# Altium footprint library lib_driver.pcblib: 30 footprints (part 2 of 5)
Each footprint in its own frame and in the unit in brackets; x right, y up, seen from the top. Pads: shape width x height; smd on the part's side, far side on the other; paste and mask are expansions set on the pad; w line width, h text height; cw(c..) or ccw(c..) is an arc to the next point about the centre after c.
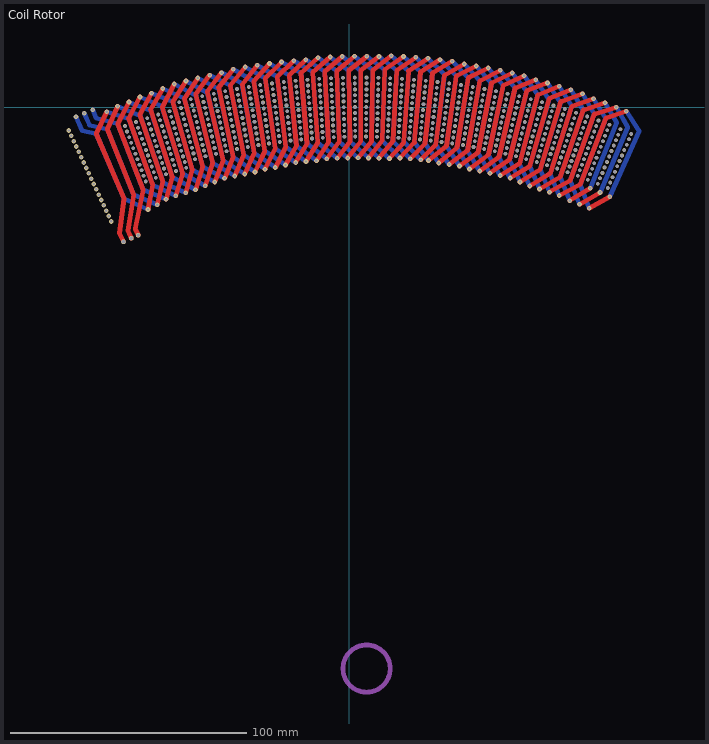
[diagram p1: the footprint, top view; thin cyan lines are the x and y axes]

## Coil Rotor [mm] "Planar Coil"
pads (3):
  round 2 hole 1.6: 1(-95.679,-57.004) 2(-92.339,-55.495) 3(-89.458,-54.242)
via 109.471,-34.23 diameter 1.6 hole 1.5
via 110.468,-31.937 diameter 1.6 hole 1.5
via 111.465,-29.645 diameter 1.6 hole 1.5
via 112.462,-27.352 diameter 1.6 hole 1.5
via 113.459,-25.059 diameter 1.6 hole 1.5
via 114.455,-22.767 diameter 1.6 hole 1.5
via 115.452,-20.474 diameter 1.6 hole 1.5
via 116.449,-18.181 diameter 1.6 hole 1.5
via 117.446,-15.889 diameter 1.6 hole 1.5
via 118.443,-13.596 diameter 1.6 hole 1.5
via 119.44,-11.303 diameter 1.6 hole 1.5
via 114.821,-9.343 diameter 1.6 hole 1.5
via 113.864,-11.652 diameter 1.6 hole 1.5
via 112.907,-13.962 diameter 1.6 hole 1.5
via 111.951,-16.272 diameter 1.6 hole 1.5
via 110.994,-18.582 diameter 1.6 hole 1.5
via 110.037,-20.891 diameter 1.6 hole 1.5
via 109.081,-23.201 diameter 1.6 hole 1.5
via 108.124,-25.511 diameter 1.6 hole 1.5
via 107.167,-27.82 diameter 1.6 hole 1.5
via 106.211,-30.13 diameter 1.6 hole 1.5
via 105.254,-32.44 diameter 1.6 hole 1.5
via 101.006,-30.724 diameter 1.6 hole 1.5
via 101.922,-28.397 diameter 1.6 hole 1.5
via 102.838,-26.071 diameter 1.6 hole 1.5
via 103.755,-23.745 diameter 1.6 hole 1.5
via 104.671,-21.419 diameter 1.6 hole 1.5
via 105.587,-19.093 diameter 1.6 hole 1.5
via 106.504,-16.767 diameter 1.6 hole 1.5
via 107.42,-14.441 diameter 1.6 hole 1.5
via 108.336,-12.115 diameter 1.6 hole 1.5
via 109.252,-9.789 diameter 1.6 hole 1.5
via 110.169,-7.463 diameter 1.6 hole 1.5
via 105.484,-5.665 diameter 1.6 hole 1.5
via 104.609,-8.007 diameter 1.6 hole 1.5
via 103.733,-10.348 diameter 1.6 hole 1.5
via 102.857,-12.69 diameter 1.6 hole 1.5
via 101.982,-15.032 diameter 1.6 hole 1.5
via 101.106,-17.373 diameter 1.6 hole 1.5
via 100.231,-19.715 diameter 1.6 hole 1.5
via 99.355,-22.057 diameter 1.6 hole 1.5
via 98.48,-24.398 diameter 1.6 hole 1.5
via 97.604,-26.74 diameter 1.6 hole 1.5
via 96.729,-29.082 diameter 1.6 hole 1.5
via 92.424,-27.515 diameter 1.6 hole 1.5
via 93.258,-25.158 diameter 1.6 hole 1.5
via 94.093,-22.802 diameter 1.6 hole 1.5
via 94.927,-20.445 diameter 1.6 hole 1.5
via 95.762,-18.088 diameter 1.6 hole 1.5
via 96.596,-15.732 diameter 1.6 hole 1.5
via 97.431,-13.375 diameter 1.6 hole 1.5
via 98.265,-11.018 diameter 1.6 hole 1.5
via 99.1,-8.662 diameter 1.6 hole 1.5
via 99.934,-6.305 diameter 1.6 hole 1.5
via 100.769,-3.949 diameter 1.6 hole 1.5
via 96.024,-2.315 diameter 1.6 hole 1.5
via 95.231,-4.686 diameter 1.6 hole 1.5
via 94.438,-7.057 diameter 1.6 hole 1.5
via 93.645,-9.427 diameter 1.6 hole 1.5
via 92.851,-11.798 diameter 1.6 hole 1.5
via 92.058,-14.169 diameter 1.6 hole 1.5
via 91.265,-16.54 diameter 1.6 hole 1.5
via 88.885,-23.652 diameter 1.6 hole 1.5
via 88.092,-26.023 diameter 1.6 hole 1.5
via 83.735,-24.607 diameter 1.6 hole 1.5
via 84.486,-22.223 diameter 1.6 hole 1.5
via 91.252,-0.764 diameter 1.6 hole 1.5
via 117.286,-1.706 diameter 2 hole 1
via 113.1,-0.02 diameter 2 hole 1
via 108.286,1.828 diameter 2 hole 1
via 97.485,-41.16 diameter 2 hole 1
via 101.551,-42.813 diameter 2 hole 1
via 102.01,-34.354 diameter 2 hole 1
via 106.194,-36.087 diameter 2 hole 1
via 110.348,-37.893 diameter 2 hole 1
via 93.39,-39.578 diameter 2 hole 1
via 88.919,-37.413 diameter 2 hole 1
via 84.76,-35.981 diameter 2 hole 1
via -71.364,-0.323 diameter 1.6 hole 1.5
via -63.429,-11.138 diameter 1.6 hole 1.5
via -60.925,-20.819 diameter 1.6 hole 1.5
via -61.551,-18.399 diameter 1.6 hole 1.5
via -62.177,-15.979 diameter 1.6 hole 1.5
via -62.803,-13.558 diameter 1.6 hole 1.5
via -64.055,-8.718 diameter 1.6 hole 1.5
via -64.681,-6.297 diameter 1.6 hole 1.5
via -65.307,-3.877 diameter 1.6 hole 1.5
via -65.933,-1.456 diameter 1.6 hole 1.5
via -66.559,0.964 diameter 1.6 hole 1.5
via -70.695,-2.733 diameter 1.6 hole 1.5
via -70.027,-5.142 diameter 1.6 hole 1.5
via -69.359,-7.551 diameter 1.6 hole 1.5
via -68.691,-9.96 diameter 1.6 hole 1.5
via -68.023,-12.369 diameter 1.6 hole 1.5
via -67.355,-14.778 diameter 1.6 hole 1.5
via -66.687,-17.187 diameter 1.6 hole 1.5
via -66.019,-19.596 diameter 1.6 hole 1.5
via -65.351,-22.005 diameter 1.6 hole 1.5
via -69.755,-23.268 diameter 1.6 hole 1.5
via -70.465,-20.871 diameter 1.6 hole 1.5
via -71.175,-18.474 diameter 1.6 hole 1.5
via -71.885,-16.077 diameter 1.6 hole 1.5
via -72.595,-13.68 diameter 1.6 hole 1.5
via -73.305,-11.283 diameter 1.6 hole 1.5
via -74.015,-8.886 diameter 1.6 hole 1.5
via -74.725,-6.489 diameter 1.6 hole 1.5
via -75.435,-4.092 diameter 1.6 hole 1.5
via -76.145,-1.694 diameter 1.6 hole 1.5
via -80.15,-5.533 diameter 1.6 hole 1.5
via -79.398,-7.917 diameter 1.6 hole 1.5
via -78.646,-10.302 diameter 1.6 hole 1.5
via -77.895,-12.686 diameter 1.6 hole 1.5
via -77.143,-15.07 diameter 1.6 hole 1.5
via -76.391,-17.455 diameter 1.6 hole 1.5
via -75.639,-19.839 diameter 1.6 hole 1.5
via -74.888,-22.223 diameter 1.6 hole 1.5
via -74.136,-24.607 diameter 1.6 hole 1.5
via -73.384,-26.992 diameter 1.6 hole 1.5
via -77.7,-28.394 diameter 1.6 hole 1.5
via -79.286,-23.652 diameter 1.6 hole 1.5
via -78.493,-26.023 diameter 1.6 hole 1.5
via -80.08,-21.282 diameter 1.6 hole 1.5
via -80.08,-21.282 diameter 1.6 hole 1.5
via -81.666,-16.54 diameter 1.6 hole 1.5
via -80.873,-18.911 diameter 1.6 hole 1.5
via -82.459,-14.169 diameter 1.6 hole 1.5
via -83.253,-11.798 diameter 1.6 hole 1.5
via -84.046,-9.427 diameter 1.6 hole 1.5
via -84.839,-7.057 diameter 1.6 hole 1.5
via -81.99,-29.871 diameter 1.6 hole 1.5
via -82.825,-27.515 diameter 1.6 hole 1.5
via -83.659,-25.158 diameter 1.6 hole 1.5
via -84.494,-22.802 diameter 1.6 hole 1.5
via -85.328,-20.445 diameter 1.6 hole 1.5
via -86.163,-18.088 diameter 1.6 hole 1.5
via -86.997,-15.732 diameter 1.6 hole 1.5
via -87.832,-13.375 diameter 1.6 hole 1.5
via -88.667,-11.018 diameter 1.6 hole 1.5
via -89.501,-8.662 diameter 1.6 hole 1.5
via -86.255,-31.423 diameter 1.6 hole 1.5
via -87.13,-29.082 diameter 1.6 hole 1.5
via -88.006,-26.74 diameter 1.6 hole 1.5
via -88.881,-24.398 diameter 1.6 hole 1.5
via -89.757,-22.057 diameter 1.6 hole 1.5
via -90.632,-19.715 diameter 1.6 hole 1.5
via -91.508,-17.373 diameter 1.6 hole 1.5
via -92.383,-15.032 diameter 1.6 hole 1.5
via -93.259,-12.69 diameter 1.6 hole 1.5
via -94.134,-10.348 diameter 1.6 hole 1.5
via -102.769,-1.881 diameter 2 hole 1
via -98.161,0.423 diameter 2 hole 1
via -93.34,2.178 diameter 2 hole 1
via -88.647,4.323 diameter 2 hole 1
via -83.758,5.911 diameter 2 hole 1
via -78.985,7.894 diameter 2 hole 1
via -74.169,9.794 diameter 2 hole 1
via -69.188,11.129 diameter 2 hole 1
via -64.184,12.377 diameter 2 hole 1
via -59.158,13.537 diameter 2 hole 1
via -54.114,14.609 diameter 2 hole 1
via -49.142,16.085 diameter 2 hole 1
via -44.055,16.982 diameter 2 hole 1
via -38.952,17.79 diameter 2 hole 1
via -33.836,18.509 diameter 2 hole 1
via -28.709,19.139 diameter 2 hole 1
via -23.571,19.679 diameter 2 hole 1
via -18.424,20.129 diameter 2 hole 1
via -13.301,20.989 diameter 2 hole 1
via -8.134,21.259 diameter 2 hole 1
via -2.962,21.44 diameter 2 hole 1
via 2.212,21.53 diameter 2 hole 1
via 7.387,21.53 diameter 2 hole 1
via 12.561,21.44 diameter 2 hole 1
via 17.754,21.759 diameter 2 hole 1
via 22.931,21.488 diameter 2 hole 1
via 28.102,21.126 diameter 2 hole 1
via 33.266,20.674 diameter 2 hole 1
via 38.421,20.133 diameter 2 hole 1
via 43.566,19.501 diameter 2 hole 1
via 48.625,18.285 diameter 2 hole 1
via 53.736,17.475 diameter 2 hole 1
via 58.832,16.577 diameter 2 hole 1
via 63.912,15.589 diameter 2 hole 1
via 68.974,14.513 diameter 2 hole 1
via 74.016,13.349 diameter 2 hole 1
via 78.912,11.613 diameter 2 hole 1
via 83.902,10.276 diameter 2 hole 1
via 88.868,8.852 diameter 2 hole 1
via 93.808,7.342 diameter 2 hole 1
via 76.371,-33.336 diameter 2 hole 1
via 68.146,-30.017 diameter 2 hole 1
via 72.277,-31.642 diameter 2 hole 1
via 63.861,-28.949 diameter 2 hole 1
via 59.559,-27.955 diameter 2 hole 1
via 55.239,-27.037 diameter 2 hole 1
via 50.905,-26.195 diameter 2 hole 1
via 46.639,-24.935 diameter 2 hole 1
via 42.269,-24.243 diameter 2 hole 1
via 37.888,-23.627 diameter 2 hole 1
via 33.553,-22.591 diameter 2 hole 1
via 30.247,-22.236 diameter 2 hole 1
via 25.833,-21.831 diameter 2 hole 1
via 21.412,-21.502 diameter 2 hole 1
via 16.962,-21.75 diameter 2 hole 1
via 12.541,-21.576 diameter 2 hole 1
via 8.118,-21.48 diameter 2 hole 1
via 3.693,-21.461 diameter 2 hole 1
via -0.731,-21.519 diameter 2 hole 1
via -5.153,-21.654 diameter 2 hole 1
via -9.572,-21.866 diameter 2 hole 1
via -13.95,-22.654 diameter 2 hole 1
via -18.35,-23.02 diameter 2 hole 1
via -22.744,-23.462 diameter 2 hole 1
via -31.361,-25.566 diameter 2 hole 1
via -27.066,-24.477 diameter 2 hole 1
via -35.708,-26.235 diameter 2 hole 1
via -39.953,-27.472 diameter 2 hole 1
via -44.266,-28.291 diameter 2 hole 1
via -48.563,-29.185 diameter 2 hole 1
via -52.844,-30.153 diameter 2 hole 1
via -56.985,-31.681 diameter 2 hole 1
via -61.09,-33.279 diameter 2 hole 1
via -69.336,-36.203 diameter 2 hole 1
via -73.492,-37.533 diameter 2 hole 1
via -77.623,-38.936 diameter 2 hole 1
via -81.384,-41.349 diameter 2 hole 1
via -85.266,-43.354 diameter 2 hole 1
via -65.158,-34.946 diameter 2 hole 1
via -61.733,2.167 diameter 1.6 hole 1.5
via -61.149,-0.264 diameter 1.6 hole 1.5
via -60.565,-2.695 diameter 1.6 hole 1.5
via -59.982,-5.125 diameter 1.6 hole 1.5
via -59.398,-7.556 diameter 1.6 hole 1.5
via -58.814,-9.987 diameter 1.6 hole 1.5
via -58.231,-12.418 diameter 1.6 hole 1.5
via -57.647,-14.849 diameter 1.6 hole 1.5
via -57.064,-17.28 diameter 1.6 hole 1.5
via -56.48,-19.711 diameter 1.6 hole 1.5
via -56.886,3.286 diameter 1.6 hole 1.5
via -56.345,0.846 diameter 1.6 hole 1.5
via -55.804,-1.595 diameter 1.6 hole 1.5
via -55.263,-4.036 diameter 1.6 hole 1.5
via -54.721,-6.477 diameter 1.6 hole 1.5
via -54.18,-8.917 diameter 1.6 hole 1.5
via -53.098,-13.799 diameter 1.6 hole 1.5
via -52.557,-16.24 diameter 1.6 hole 1.5
via -53.639,-11.358 diameter 1.6 hole 1.5
via -52.016,-18.68 diameter 1.6 hole 1.5
via -52.02,4.32 diameter 1.6 hole 1.5
via -51.522,1.871 diameter 1.6 hole 1.5
via -50.525,-3.029 diameter 1.6 hole 1.5
via -51.024,-0.579 diameter 1.6 hole 1.5
via -50.027,-5.479 diameter 1.6 hole 1.5
via -49.528,-7.929 diameter 1.6 hole 1.5
via -49.03,-10.378 diameter 1.6 hole 1.5
via -48.033,-15.278 diameter 1.6 hole 1.5
via -47.535,-17.728 diameter 1.6 hole 1.5
via -48.532,-12.828 diameter 1.6 hole 1.5
via -47.138,5.27 diameter 1.6 hole 1.5
via -42.239,6.133 diameter 1.6 hole 1.5
via -37.326,6.911 diameter 1.6 hole 1.5
via -32.401,7.604 diameter 1.6 hole 1.5
via -32.074,5.125 diameter 1.6 hole 1.5
via -31.748,2.646 diameter 1.6 hole 1.5
via -31.422,0.168 diameter 1.6 hole 1.5
via -31.095,-2.311 diameter 1.6 hole 1.5
via -30.769,-4.789 diameter 1.6 hole 1.5
via -30.443,-7.268 diameter 1.6 hole 1.5
via -30.116,-9.747 diameter 1.6 hole 1.5
via -29.79,-12.225 diameter 1.6 hole 1.5
via -29.464,-14.704 diameter 1.6 hole 1.5
via -34.001,-15.341 diameter 1.6 hole 1.5
via -38.526,-16.058 diameter 1.6 hole 1.5
via -43.037,-16.854 diameter 1.6 hole 1.5
via -43.493,-14.396 diameter 1.6 hole 1.5
via -43.949,-11.937 diameter 1.6 hole 1.5
via -44.404,-9.479 diameter 1.6 hole 1.5
via -44.86,-7.021 diameter 1.6 hole 1.5
via -45.315,-4.563 diameter 1.6 hole 1.5
via -45.771,-2.105 diameter 1.6 hole 1.5
via -46.227,0.353 diameter 1.6 hole 1.5
via -46.682,2.811 diameter 1.6 hole 1.5
via -38.938,-13.592 diameter 1.6 hole 1.5
via -39.351,-11.127 diameter 1.6 hole 1.5
via -39.763,-8.661 diameter 1.6 hole 1.5
via -40.176,-6.195 diameter 1.6 hole 1.5
via -40.589,-3.73 diameter 1.6 hole 1.5
via -41.001,-1.264 diameter 1.6 hole 1.5
via -41.414,1.202 diameter 1.6 hole 1.5
via -41.827,3.668 diameter 1.6 hole 1.5
via -34.37,-12.869 diameter 1.6 hole 1.5
via -34.74,-10.396 diameter 1.6 hole 1.5
via -35.109,-7.924 diameter 1.6 hole 1.5
via -35.479,-5.451 diameter 1.6 hole 1.5
via -35.848,-2.979 diameter 1.6 hole 1.5
via -36.218,-0.506 diameter 1.6 hole 1.5
via -36.587,1.966 diameter 1.6 hole 1.5
via -36.957,4.439 diameter 1.6 hole 1.5
via -24.916,-14.146 diameter 1.6 hole 1.5
via -25.199,-11.662 diameter 1.6 hole 1.5
via -25.482,-9.178 diameter 1.6 hole 1.5
via -25.765,-6.694 diameter 1.6 hole 1.5
via -26.331,-1.726 diameter 1.6 hole 1.5
via -26.614,0.758 diameter 1.6 hole 1.5
via -27.18,5.726 diameter 1.6 hole 1.5
via -27.464,8.21 diameter 1.6 hole 1.5
via -26.048,-4.21 diameter 1.6 hole 1.5
via -26.897,3.242 diameter 1.6 hole 1.5
via -20.36,-13.667 diameter 1.6 hole 1.5
via -20.6,-11.178 diameter 1.6 hole 1.5
via -20.839,-8.69 diameter 1.6 hole 1.5
via -21.079,-6.201 diameter 1.6 hole 1.5
via -21.319,-3.713 diameter 1.6 hole 1.5
via -21.558,-1.224 diameter 1.6 hole 1.5
via -22.037,3.753 diameter 1.6 hole 1.5
via -22.277,6.241 diameter 1.6 hole 1.5
via -22.517,8.73 diameter 1.6 hole 1.5
via -21.798,1.264 diameter 1.6 hole 1.5
via -17.758,11.656 diameter 1.6 hole 1.5
via -17.561,9.163 diameter 1.6 hole 1.5
via -17.365,6.671 diameter 1.6 hole 1.5
via -17.169,4.179 diameter 1.6 hole 1.5
via -16.973,1.686 diameter 1.6 hole 1.5
via -16.777,-0.806 diameter 1.6 hole 1.5
via -16.581,-3.298 diameter 1.6 hole 1.5
via -16.385,-5.79 diameter 1.6 hole 1.5
via -16.188,-8.283 diameter 1.6 hole 1.5
via -15.992,-10.775 diameter 1.6 hole 1.5
via -15.796,-13.267 diameter 1.6 hole 1.5
via -22.756,11.218 diameter 1.6 hole 1.5
via -27.747,10.694 diameter 1.6 hole 1.5
via -32.727,10.082 diameter 1.6 hole 1.5
via -37.696,9.384 diameter 1.6 hole 1.5
via -42.652,8.599 diameter 1.6 hole 1.5
via -47.593,7.728 diameter 1.6 hole 1.5
via -52.519,6.77 diameter 1.6 hole 1.5
via -80.902,-3.149 diameter 1.6 hole 1.5
via -85.632,-4.686 diameter 1.6 hole 1.5
via -90.336,-6.305 diameter 1.6 hole 1.5
via -95.01,-8.007 diameter 1.6 hole 1.5
via -57.427,5.727 diameter 1.6 hole 1.5
via -62.316,4.598 diameter 1.6 hole 1.5
via -67.185,3.384 diameter 1.6 hole 1.5
via -72.032,2.086 diameter 1.6 hole 1.5
via -69.045,-25.665 diameter 1.6 hole 1.5
via -12.752,12.006 diameter 1.6 hole 1.5
via -12.599,9.51 diameter 1.6 hole 1.5
via -12.447,7.015 diameter 1.6 hole 1.5
via -12.294,4.52 diameter 1.6 hole 1.5
via -12.142,2.024 diameter 1.6 hole 1.5
via -11.989,-0.471 diameter 1.6 hole 1.5
via -11.836,-2.966 diameter 1.6 hole 1.5
via -11.684,-5.462 diameter 1.6 hole 1.5
via -11.531,-7.957 diameter 1.6 hole 1.5
via -11.378,-10.452 diameter 1.6 hole 1.5
via -11.226,-12.948 diameter 1.6 hole 1.5
via -7.741,12.268 diameter 1.6 hole 1.5
via -7.632,9.771 diameter 1.6 hole 1.5
via -7.523,7.273 diameter 1.6 hole 1.5
via -7.414,4.775 diameter 1.6 hole 1.5
via -7.305,2.278 diameter 1.6 hole 1.5
via -7.196,-0.22 diameter 1.6 hole 1.5
via -7.087,-2.717 diameter 1.6 hole 1.5
via -6.978,-5.215 diameter 1.6 hole 1.5
via -6.869,-7.713 diameter 1.6 hole 1.5
via -6.76,-10.21 diameter 1.6 hole 1.5
via -6.651,-12.708 diameter 1.6 hole 1.5
via -2.726,12.443 diameter 1.6 hole 1.5
via -2.661,9.944 diameter 1.6 hole 1.5
via -2.596,7.445 diameter 1.6 hole 1.5
via -2.53,4.946 diameter 1.6 hole 1.5
via -2.465,2.447 diameter 1.6 hole 1.5
via -2.399,-0.052 diameter 1.6 hole 1.5
via -2.334,-2.551 diameter 1.6 hole 1.5
via -2.268,-5.051 diameter 1.6 hole 1.5
via -2.203,-7.55 diameter 1.6 hole 1.5
via -2.137,-10.049 diameter 1.6 hole 1.5
via -2.072,-12.548 diameter 1.6 hole 1.5
via 2.291,12.531 diameter 1.6 hole 1.5
via 2.312,10.031 diameter 1.6 hole 1.5
via 2.334,7.531 diameter 1.6 hole 1.5
via 2.378,2.531 diameter 1.6 hole 1.5
via 2.4,0.031 diameter 1.6 hole 1.5
via 2.443,-4.968 diameter 1.6 hole 1.5
via 2.487,-9.968 diameter 1.6 hole 1.5
via 2.509,-12.468 diameter 1.6 hole 1.5
via 2.465,-7.468 diameter 1.6 hole 1.5
via 2.421,-2.468 diameter 1.6 hole 1.5
via 2.356,5.031 diameter 1.6 hole 1.5
via 7.308,12.531 diameter 1.6 hole 1.5
via 7.286,10.031 diameter 1.6 hole 1.5
via 7.265,7.531 diameter 1.6 hole 1.5
via 7.243,5.031 diameter 1.6 hole 1.5
via 7.221,2.531 diameter 1.6 hole 1.5
via 7.199,0.031 diameter 1.6 hole 1.5
via 7.177,-2.468 diameter 1.6 hole 1.5
via 7.156,-4.968 diameter 1.6 hole 1.5
via 7.134,-7.468 diameter 1.6 hole 1.5
via 7.112,-9.968 diameter 1.6 hole 1.5
via 7.09,-12.468 diameter 1.6 hole 1.5
via 12.325,12.443 diameter 1.6 hole 1.5
via 12.194,7.445 diameter 1.6 hole 1.5
via 12.129,4.946 diameter 1.6 hole 1.5
via 11.998,-0.052 diameter 1.6 hole 1.5
via 12.064,2.447 diameter 1.6 hole 1.5
via 11.933,-2.551 diameter 1.6 hole 1.5
via 11.867,-5.051 diameter 1.6 hole 1.5
via 11.802,-7.55 diameter 1.6 hole 1.5
via 11.736,-10.049 diameter 1.6 hole 1.5
via 11.671,-12.548 diameter 1.6 hole 1.5
via 12.26,9.944 diameter 1.6 hole 1.5
via 17.34,12.268 diameter 1.6 hole 1.5
via 17.231,9.771 diameter 1.6 hole 1.5
via 17.122,7.273 diameter 1.6 hole 1.5
via 17.013,4.775 diameter 1.6 hole 1.5
via 16.904,2.278 diameter 1.6 hole 1.5
via 16.795,-0.22 diameter 1.6 hole 1.5
via 16.686,-2.717 diameter 1.6 hole 1.5
via 16.577,-5.215 diameter 1.6 hole 1.5
via 16.468,-7.713 diameter 1.6 hole 1.5
via 16.359,-10.21 diameter 1.6 hole 1.5
via 16.25,-12.708 diameter 1.6 hole 1.5
via 22.351,12.006 diameter 1.6 hole 1.5
via 22.198,9.51 diameter 1.6 hole 1.5
via 22.046,7.015 diameter 1.6 hole 1.5
via 21.893,4.52 diameter 1.6 hole 1.5
via 21.74,2.024 diameter 1.6 hole 1.5
via 21.588,-0.471 diameter 1.6 hole 1.5
via 21.435,-2.966 diameter 1.6 hole 1.5
via 21.283,-5.462 diameter 1.6 hole 1.5
via 21.13,-7.957 diameter 1.6 hole 1.5
via 20.977,-10.452 diameter 1.6 hole 1.5
via 20.825,-12.948 diameter 1.6 hole 1.5
via 27.356,11.656 diameter 1.6 hole 1.5
via 27.16,9.163 diameter 1.6 hole 1.5
via 26.964,6.671 diameter 1.6 hole 1.5
via 26.768,4.179 diameter 1.6 hole 1.5
via 26.572,1.686 diameter 1.6 hole 1.5
via 26.376,-0.806 diameter 1.6 hole 1.5
via 26.18,-3.298 diameter 1.6 hole 1.5
via 25.983,-5.79 diameter 1.6 hole 1.5
via 25.787,-8.283 diameter 1.6 hole 1.5
via 25.591,-10.775 diameter 1.6 hole 1.5
via 25.395,-13.267 diameter 1.6 hole 1.5
via 32.355,11.218 diameter 1.6 hole 1.5
via 32.115,8.73 diameter 1.6 hole 1.5
via 31.876,6.241 diameter 1.6 hole 1.5
via 31.636,3.753 diameter 1.6 hole 1.5
via 31.397,1.264 diameter 1.6 hole 1.5
via 31.157,-1.224 diameter 1.6 hole 1.5
via 30.917,-3.713 diameter 1.6 hole 1.5
via 30.678,-6.201 diameter 1.6 hole 1.5
via 30.438,-8.69 diameter 1.6 hole 1.5
via 29.959,-13.667 diameter 1.6 hole 1.5
via 30.199,-11.178 diameter 1.6 hole 1.5
via 37.345,10.694 diameter 1.6 hole 1.5
via 37.062,8.21 diameter 1.6 hole 1.5
via 36.779,5.726 diameter 1.6 hole 1.5
via 36.496,3.242 diameter 1.6 hole 1.5
via 36.213,0.758 diameter 1.6 hole 1.5
via 35.93,-1.726 diameter 1.6 hole 1.5
via 35.647,-4.21 diameter 1.6 hole 1.5
via 35.364,-6.694 diameter 1.6 hole 1.5
via 35.081,-9.178 diameter 1.6 hole 1.5
via 34.798,-11.662 diameter 1.6 hole 1.5
via 34.515,-14.146 diameter 1.6 hole 1.5
via 42.326,10.082 diameter 1.6 hole 1.5
via 41.999,7.604 diameter 1.6 hole 1.5
via 41.673,5.125 diameter 1.6 hole 1.5
via 41.347,2.646 diameter 1.6 hole 1.5
via 41.02,0.168 diameter 1.6 hole 1.5
via 40.694,-2.311 diameter 1.6 hole 1.5
via 40.368,-4.789 diameter 1.6 hole 1.5
via 40.041,-7.268 diameter 1.6 hole 1.5
via 39.715,-9.747 diameter 1.6 hole 1.5
via 39.389,-12.225 diameter 1.6 hole 1.5
via 39.063,-14.704 diameter 1.6 hole 1.5
via 43.599,-15.341 diameter 1.6 hole 1.5
via 43.969,-12.869 diameter 1.6 hole 1.5
via 44.338,-10.396 diameter 1.6 hole 1.5
via 44.708,-7.924 diameter 1.6 hole 1.5
via 45.077,-5.451 diameter 1.6 hole 1.5
via 45.447,-2.979 diameter 1.6 hole 1.5
via 45.817,-0.506 diameter 1.6 hole 1.5
via 46.186,1.966 diameter 1.6 hole 1.5
via 46.556,4.439 diameter 1.6 hole 1.5
via 46.925,6.911 diameter 1.6 hole 1.5
via 47.295,9.384 diameter 1.6 hole 1.5
via 48.124,-16.058 diameter 1.6 hole 1.5
via 48.537,-13.592 diameter 1.6 hole 1.5
via 48.95,-11.127 diameter 1.6 hole 1.5
via 49.362,-8.661 diameter 1.6 hole 1.5
via 50.188,-3.73 diameter 1.6 hole 1.5
via 49.775,-6.195 diameter 1.6 hole 1.5
via 50.6,-1.264 diameter 1.6 hole 1.5
via 51.013,1.202 diameter 1.6 hole 1.5
via 51.425,3.668 diameter 1.6 hole 1.5
via 51.838,6.133 diameter 1.6 hole 1.5
via 52.251,8.599 diameter 1.6 hole 1.5
via 52.636,-16.854 diameter 1.6 hole 1.5
via 53.092,-14.396 diameter 1.6 hole 1.5
via 53.547,-11.937 diameter 1.6 hole 1.5
via 54.003,-9.479 diameter 1.6 hole 1.5
via 54.459,-7.021 diameter 1.6 hole 1.5
via 54.914,-4.563 diameter 1.6 hole 1.5
via 55.37,-2.105 diameter 1.6 hole 1.5
via 55.825,0.353 diameter 1.6 hole 1.5
via 56.281,2.811 diameter 1.6 hole 1.5
via 56.737,5.27 diameter 1.6 hole 1.5
via 57.192,7.728 diameter 1.6 hole 1.5
via 57.133,-17.728 diameter 1.6 hole 1.5
via 57.632,-15.278 diameter 1.6 hole 1.5
via 58.13,-12.828 diameter 1.6 hole 1.5
via 58.629,-10.378 diameter 1.6 hole 1.5
via 59.127,-7.929 diameter 1.6 hole 1.5
via 59.626,-5.479 diameter 1.6 hole 1.5
via 60.124,-3.029 diameter 1.6 hole 1.5
via 61.121,1.871 diameter 1.6 hole 1.5
via 61.619,4.32 diameter 1.6 hole 1.5
via 60.622,-0.579 diameter 1.6 hole 1.5
via 62.118,6.77 diameter 1.6 hole 1.5
via 61.615,-18.68 diameter 1.6 hole 1.5
via 62.156,-16.24 diameter 1.6 hole 1.5
via 62.697,-13.799 diameter 1.6 hole 1.5
via 63.238,-11.358 diameter 1.6 hole 1.5
via 63.779,-8.917 diameter 1.6 hole 1.5
via 64.32,-6.477 diameter 1.6 hole 1.5
via 64.861,-4.036 diameter 1.6 hole 1.5
via 65.403,-1.595 diameter 1.6 hole 1.5
via 65.944,0.846 diameter 1.6 hole 1.5
via 66.485,3.286 diameter 1.6 hole 1.5
via 67.026,5.727 diameter 1.6 hole 1.5
via 66.079,-19.711 diameter 1.6 hole 1.5
via 66.662,-17.28 diameter 1.6 hole 1.5
via 67.246,-14.849 diameter 1.6 hole 1.5
via 67.83,-12.418 diameter 1.6 hole 1.5
via 68.413,-9.987 diameter 1.6 hole 1.5
via 68.997,-7.556 diameter 1.6 hole 1.5
via 69.581,-5.125 diameter 1.6 hole 1.5
via 70.164,-2.695 diameter 1.6 hole 1.5
via 70.748,-0.264 diameter 1.6 hole 1.5
via 71.331,2.167 diameter 1.6 hole 1.5
via 71.915,4.598 diameter 1.6 hole 1.5
via 70.524,-20.819 diameter 1.6 hole 1.5
via 71.15,-18.399 diameter 1.6 hole 1.5
via 71.776,-15.979 diameter 1.6 hole 1.5
via 72.402,-13.558 diameter 1.6 hole 1.5
via 73.028,-11.138 diameter 1.6 hole 1.5
via 73.654,-8.718 diameter 1.6 hole 1.5
via 74.28,-6.297 diameter 1.6 hole 1.5
via 74.906,-3.877 diameter 1.6 hole 1.5
via 75.532,-1.456 diameter 1.6 hole 1.5
via 76.158,0.964 diameter 1.6 hole 1.5
via 76.784,3.384 diameter 1.6 hole 1.5
via 74.949,-22.005 diameter 1.6 hole 1.5
via 75.618,-19.596 diameter 1.6 hole 1.5
via 76.286,-17.187 diameter 1.6 hole 1.5
via 76.954,-14.778 diameter 1.6 hole 1.5
via 77.622,-12.369 diameter 1.6 hole 1.5
via 78.29,-9.96 diameter 1.6 hole 1.5
via 78.958,-7.551 diameter 1.6 hole 1.5
via 79.626,-5.142 diameter 1.6 hole 1.5
via 80.294,-2.733 diameter 1.6 hole 1.5
via 80.962,-0.323 diameter 1.6 hole 1.5
via 81.63,2.086 diameter 1.6 hole 1.5
via -100.855,-48.381 diameter 2 hole 1
via -65.158,-34.946 diameter 2 hole 1
via -85.266,-43.354 diameter 2 hole 1
via -81.384,-41.349 diameter 2 hole 1
via -77.623,-38.936 diameter 2 hole 1
via -73.492,-37.533 diameter 2 hole 1
via -69.336,-36.203 diameter 2 hole 1
via -61.09,-33.279 diameter 2 hole 1
via -56.985,-31.681 diameter 2 hole 1
via -52.844,-30.153 diameter 2 hole 1
via -48.563,-29.185 diameter 2 hole 1
via -44.266,-28.291 diameter 2 hole 1
via -39.953,-27.472 diameter 2 hole 1
via -35.708,-26.235 diameter 2 hole 1
via -27.066,-24.477 diameter 2 hole 1
via -31.361,-25.566 diameter 2 hole 1
via -22.744,-23.462 diameter 2 hole 1
via -18.35,-23.02 diameter 2 hole 1
via -13.95,-22.654 diameter 2 hole 1
via -9.572,-21.866 diameter 2 hole 1
via -5.153,-21.654 diameter 2 hole 1
via -0.731,-21.519 diameter 2 hole 1
via 3.693,-21.461 diameter 2 hole 1
via 8.118,-21.48 diameter 2 hole 1
via 12.541,-21.576 diameter 2 hole 1
via 16.962,-21.75 diameter 2 hole 1
via 21.412,-21.502 diameter 2 hole 1
via 25.833,-21.831 diameter 2 hole 1
via 30.247,-22.236 diameter 2 hole 1
via 33.553,-22.591 diameter 2 hole 1
via 37.888,-23.627 diameter 2 hole 1
via 42.269,-24.243 diameter 2 hole 1
via 46.639,-24.935 diameter 2 hole 1
via 50.905,-26.195 diameter 2 hole 1
via 55.239,-27.037 diameter 2 hole 1
via 59.559,-27.955 diameter 2 hole 1
via 63.861,-28.949 diameter 2 hole 1
via 72.277,-31.642 diameter 2 hole 1
via 68.146,-30.017 diameter 2 hole 1
via 76.371,-33.336 diameter 2 hole 1
via 93.808,7.342 diameter 2 hole 1
via 88.868,8.852 diameter 2 hole 1
via 83.902,10.276 diameter 2 hole 1
via 78.912,11.613 diameter 2 hole 1
via 74.016,13.349 diameter 2 hole 1
via 68.974,14.513 diameter 2 hole 1
via 63.912,15.589 diameter 2 hole 1
via 58.832,16.577 diameter 2 hole 1
via 53.736,17.475 diameter 2 hole 1
via 48.625,18.285 diameter 2 hole 1
via 43.566,19.501 diameter 2 hole 1
via 38.421,20.133 diameter 2 hole 1
via 33.266,20.674 diameter 2 hole 1
via 28.102,21.126 diameter 2 hole 1
via 22.931,21.488 diameter 2 hole 1
via 17.754,21.759 diameter 2 hole 1
via 12.561,21.44 diameter 2 hole 1
via 7.387,21.53 diameter 2 hole 1
via 2.212,21.53 diameter 2 hole 1
via -2.962,21.44 diameter 2 hole 1
via -8.134,21.259 diameter 2 hole 1
via -13.301,20.989 diameter 2 hole 1
via -18.424,20.129 diameter 2 hole 1
via -23.571,19.679 diameter 2 hole 1
via -28.709,19.139 diameter 2 hole 1
via -33.836,18.509 diameter 2 hole 1
via -38.952,17.79 diameter 2 hole 1
via -44.055,16.982 diameter 2 hole 1
via -49.142,16.085 diameter 2 hole 1
via -54.114,14.609 diameter 2 hole 1
via -59.158,13.537 diameter 2 hole 1
via -64.184,12.377 diameter 2 hole 1
via -69.188,11.129 diameter 2 hole 1
via -74.169,9.794 diameter 2 hole 1
via -78.985,7.894 diameter 2 hole 1
via -83.758,5.911 diameter 2 hole 1
via -88.647,4.323 diameter 2 hole 1
via -93.34,2.178 diameter 2 hole 1
via -98.161,0.423 diameter 2 hole 1
via -102.769,-1.881 diameter 2 hole 1
via -65.158,-34.946 diameter 2 hole 1
via -85.266,-43.354 diameter 2 hole 1
via -81.384,-41.349 diameter 2 hole 1
via -77.623,-38.936 diameter 2 hole 1
via -73.492,-37.533 diameter 2 hole 1
via -69.336,-36.203 diameter 2 hole 1
via -61.09,-33.279 diameter 2 hole 1
via -56.985,-31.681 diameter 2 hole 1
via -52.844,-30.153 diameter 2 hole 1
via -48.563,-29.185 diameter 2 hole 1
via -44.266,-28.291 diameter 2 hole 1
via -39.953,-27.472 diameter 2 hole 1
via -35.708,-26.235 diameter 2 hole 1
via -27.066,-24.477 diameter 2 hole 1
via -31.361,-25.566 diameter 2 hole 1
via -22.744,-23.462 diameter 2 hole 1
via -18.35,-23.02 diameter 2 hole 1
via -13.95,-22.654 diameter 2 hole 1
via -9.572,-21.866 diameter 2 hole 1
via -5.153,-21.654 diameter 2 hole 1
via -0.731,-21.519 diameter 2 hole 1
via 3.693,-21.461 diameter 2 hole 1
via 8.118,-21.48 diameter 2 hole 1
via 12.541,-21.576 diameter 2 hole 1
via 16.962,-21.75 diameter 2 hole 1
via 21.412,-21.502 diameter 2 hole 1
via 25.833,-21.831 diameter 2 hole 1
via 30.247,-22.236 diameter 2 hole 1
via 33.553,-22.591 diameter 2 hole 1
via 37.888,-23.627 diameter 2 hole 1
via 42.269,-24.243 diameter 2 hole 1
via 46.639,-24.935 diameter 2 hole 1
via 50.905,-26.195 diameter 2 hole 1
via 55.239,-27.037 diameter 2 hole 1
via 59.559,-27.955 diameter 2 hole 1
via 63.861,-28.949 diameter 2 hole 1
via 72.277,-31.642 diameter 2 hole 1
via 68.146,-30.017 diameter 2 hole 1
via 76.371,-33.336 diameter 2 hole 1
via 93.808,7.342 diameter 2 hole 1
via 88.868,8.852 diameter 2 hole 1
via 83.902,10.276 diameter 2 hole 1
via 78.912,11.613 diameter 2 hole 1
via 74.016,13.349 diameter 2 hole 1
via 68.974,14.513 diameter 2 hole 1
via 63.912,15.589 diameter 2 hole 1
via 58.832,16.577 diameter 2 hole 1
via 53.736,17.475 diameter 2 hole 1
via 48.625,18.285 diameter 2 hole 1
via 43.566,19.501 diameter 2 hole 1
via 38.421,20.133 diameter 2 hole 1
via 33.266,20.674 diameter 2 hole 1
via 28.102,21.126 diameter 2 hole 1
via 22.931,21.488 diameter 2 hole 1
via 17.754,21.759 diameter 2 hole 1
via 12.561,21.44 diameter 2 hole 1
via 7.387,21.53 diameter 2 hole 1
via 2.212,21.53 diameter 2 hole 1
via -2.962,21.44 diameter 2 hole 1
via -8.134,21.259 diameter 2 hole 1
via -13.301,20.989 diameter 2 hole 1
via -18.424,20.129 diameter 2 hole 1
via -23.571,19.679 diameter 2 hole 1
via -28.709,19.139 diameter 2 hole 1
via -33.836,18.509 diameter 2 hole 1
via -38.952,17.79 diameter 2 hole 1
via -44.055,16.982 diameter 2 hole 1
via -49.142,16.085 diameter 2 hole 1
via -54.114,14.609 diameter 2 hole 1
via -59.158,13.537 diameter 2 hole 1
via -64.184,12.377 diameter 2 hole 1
via -69.188,11.129 diameter 2 hole 1
via -74.169,9.794 diameter 2 hole 1
via -78.985,7.894 diameter 2 hole 1
via -83.758,5.911 diameter 2 hole 1
via -88.647,4.323 diameter 2 hole 1
via -93.34,2.178 diameter 2 hole 1
via -98.161,0.423 diameter 2 hole 1
via -102.769,-1.881 diameter 2 hole 1
via -65.158,-34.946 diameter 2 hole 1
via -85.266,-43.354 diameter 2 hole 1
via -81.384,-41.349 diameter 2 hole 1
via -77.623,-38.936 diameter 2 hole 1
via -73.492,-37.533 diameter 2 hole 1
via -69.336,-36.203 diameter 2 hole 1
via -61.09,-33.279 diameter 2 hole 1
via -56.985,-31.681 diameter 2 hole 1
via -52.844,-30.153 diameter 2 hole 1
via -48.563,-29.185 diameter 2 hole 1
via -44.266,-28.291 diameter 2 hole 1
via -39.953,-27.472 diameter 2 hole 1
via -35.708,-26.235 diameter 2 hole 1
via -27.066,-24.477 diameter 2 hole 1
via -31.361,-25.566 diameter 2 hole 1
via -22.744,-23.462 diameter 2 hole 1
via -18.35,-23.02 diameter 2 hole 1
via -13.95,-22.654 diameter 2 hole 1
via -9.572,-21.866 diameter 2 hole 1
via -5.153,-21.654 diameter 2 hole 1
via -0.731,-21.519 diameter 2 hole 1
via 3.693,-21.461 diameter 2 hole 1
via 8.118,-21.48 diameter 2 hole 1
via 12.541,-21.576 diameter 2 hole 1
via 16.962,-21.75 diameter 2 hole 1
via 21.412,-21.502 diameter 2 hole 1
via 25.833,-21.831 diameter 2 hole 1
via 30.247,-22.236 diameter 2 hole 1
via 33.553,-22.591 diameter 2 hole 1
via 37.888,-23.627 diameter 2 hole 1
via 42.269,-24.243 diameter 2 hole 1
via 46.639,-24.935 diameter 2 hole 1
via 50.905,-26.195 diameter 2 hole 1
via 55.239,-27.037 diameter 2 hole 1
via 59.559,-27.955 diameter 2 hole 1
via 63.861,-28.949 diameter 2 hole 1
via 72.277,-31.642 diameter 2 hole 1
via 68.146,-30.017 diameter 2 hole 1
via 76.371,-33.336 diameter 2 hole 1
via 93.808,7.342 diameter 2 hole 1
via 88.868,8.852 diameter 2 hole 1
via 83.902,10.276 diameter 2 hole 1
via 78.912,11.613 diameter 2 hole 1
via 74.016,13.349 diameter 2 hole 1
via 68.974,14.513 diameter 2 hole 1
via 63.912,15.589 diameter 2 hole 1
via 58.832,16.577 diameter 2 hole 1
via 53.736,17.475 diameter 2 hole 1
via 48.625,18.285 diameter 2 hole 1
via 43.566,19.501 diameter 2 hole 1
via 38.421,20.133 diameter 2 hole 1
via 33.266,20.674 diameter 2 hole 1
via 28.102,21.126 diameter 2 hole 1
via 22.931,21.488 diameter 2 hole 1
via 17.754,21.759 diameter 2 hole 1
via 12.561,21.44 diameter 2 hole 1
via 7.387,21.53 diameter 2 hole 1
via 2.212,21.53 diameter 2 hole 1
via -2.962,21.44 diameter 2 hole 1
via -8.134,21.259 diameter 2 hole 1
via -13.301,20.989 diameter 2 hole 1
via -18.424,20.129 diameter 2 hole 1
via -23.571,19.679 diameter 2 hole 1
via -28.709,19.139 diameter 2 hole 1
via -33.836,18.509 diameter 2 hole 1
via -38.952,17.79 diameter 2 hole 1
via -44.055,16.982 diameter 2 hole 1
via -49.142,16.085 diameter 2 hole 1
via -54.114,14.609 diameter 2 hole 1
via -59.158,13.537 diameter 2 hole 1
via -64.184,12.377 diameter 2 hole 1
via -69.188,11.129 diameter 2 hole 1
via -74.169,9.794 diameter 2 hole 1
via -78.985,7.894 diameter 2 hole 1
via -83.758,5.911 diameter 2 hole 1
via -88.647,4.323 diameter 2 hole 1
via -93.34,2.178 diameter 2 hole 1
via -98.161,0.423 diameter 2 hole 1
via -102.769,-1.881 diameter 2 hole 1
via -65.158,-34.946 diameter 2 hole 1
via -85.266,-43.354 diameter 2 hole 1
via -81.384,-41.349 diameter 2 hole 1
via -77.623,-38.936 diameter 2 hole 1
via -73.492,-37.533 diameter 2 hole 1
via -69.336,-36.203 diameter 2 hole 1
via -61.09,-33.279 diameter 2 hole 1
via -56.985,-31.681 diameter 2 hole 1
via -52.844,-30.153 diameter 2 hole 1
via -48.563,-29.185 diameter 2 hole 1
via -44.266,-28.291 diameter 2 hole 1
via -39.953,-27.472 diameter 2 hole 1
via -35.708,-26.235 diameter 2 hole 1
via -27.066,-24.477 diameter 2 hole 1
via -31.361,-25.566 diameter 2 hole 1
via -22.744,-23.462 diameter 2 hole 1
via -18.35,-23.02 diameter 2 hole 1
via -13.95,-22.654 diameter 2 hole 1
via -9.572,-21.866 diameter 2 hole 1
via -5.153,-21.654 diameter 2 hole 1
via -0.731,-21.519 diameter 2 hole 1
via 3.693,-21.461 diameter 2 hole 1
via 8.118,-21.48 diameter 2 hole 1
via 12.541,-21.576 diameter 2 hole 1
via 16.962,-21.75 diameter 2 hole 1
via 21.412,-21.502 diameter 2 hole 1
via 25.833,-21.831 diameter 2 hole 1
via 30.247,-22.236 diameter 2 hole 1
via 33.553,-22.591 diameter 2 hole 1
via 37.888,-23.627 diameter 2 hole 1
via 42.269,-24.243 diameter 2 hole 1
via 46.639,-24.935 diameter 2 hole 1
via 50.905,-26.195 diameter 2 hole 1
via 55.239,-27.037 diameter 2 hole 1
via 59.559,-27.955 diameter 2 hole 1
via 63.861,-28.949 diameter 2 hole 1
via 72.277,-31.642 diameter 2 hole 1
via 68.146,-30.017 diameter 2 hole 1
via 76.371,-33.336 diameter 2 hole 1
via 93.808,7.342 diameter 2 hole 1
via 88.868,8.852 diameter 2 hole 1
via 83.902,10.276 diameter 2 hole 1
via 78.912,11.613 diameter 2 hole 1
via 74.016,13.349 diameter 2 hole 1
via 68.974,14.513 diameter 2 hole 1
via 63.912,15.589 diameter 2 hole 1
via 58.832,16.577 diameter 2 hole 1
via 53.736,17.475 diameter 2 hole 1
via 48.625,18.285 diameter 2 hole 1
via 43.566,19.501 diameter 2 hole 1
via 38.421,20.133 diameter 2 hole 1
via 33.266,20.674 diameter 2 hole 1
via 28.102,21.126 diameter 2 hole 1
via 22.931,21.488 diameter 2 hole 1
via 17.754,21.759 diameter 2 hole 1
via 12.561,21.44 diameter 2 hole 1
via 7.387,21.53 diameter 2 hole 1
via 2.212,21.53 diameter 2 hole 1
via -2.962,21.44 diameter 2 hole 1
via -8.134,21.259 diameter 2 hole 1
via -13.301,20.989 diameter 2 hole 1
via -18.424,20.129 diameter 2 hole 1
via -23.571,19.679 diameter 2 hole 1
via -28.709,19.139 diameter 2 hole 1
via -33.836,18.509 diameter 2 hole 1
via -38.952,17.79 diameter 2 hole 1
via -44.055,16.982 diameter 2 hole 1
via -49.142,16.085 diameter 2 hole 1
via -54.114,14.609 diameter 2 hole 1
via -59.158,13.537 diameter 2 hole 1
via -64.184,12.377 diameter 2 hole 1
via -69.188,11.129 diameter 2 hole 1
via -74.169,9.794 diameter 2 hole 1
via -78.985,7.894 diameter 2 hole 1
via -83.758,5.911 diameter 2 hole 1
via -88.647,4.323 diameter 2 hole 1
via -93.34,2.178 diameter 2 hole 1
via -98.161,0.423 diameter 2 hole 1
via -102.769,-1.881 diameter 2 hole 1
via -65.158,-34.946 diameter 2 hole 1
via -85.266,-43.354 diameter 2 hole 1
via -81.384,-41.349 diameter 2 hole 1
via -77.623,-38.936 diameter 2 hole 1
via -73.492,-37.533 diameter 2 hole 1
via -69.336,-36.203 diameter 2 hole 1
via -61.09,-33.279 diameter 2 hole 1
via -56.985,-31.681 diameter 2 hole 1
via -52.844,-30.153 diameter 2 hole 1
via -48.563,-29.185 diameter 2 hole 1
via -44.266,-28.291 diameter 2 hole 1
via -39.953,-27.472 diameter 2 hole 1
via -35.708,-26.235 diameter 2 hole 1
via -27.066,-24.477 diameter 2 hole 1
via -31.361,-25.566 diameter 2 hole 1
via -22.744,-23.462 diameter 2 hole 1
via -18.35,-23.02 diameter 2 hole 1
via -13.95,-22.654 diameter 2 hole 1
via -9.572,-21.866 diameter 2 hole 1
via -5.153,-21.654 diameter 2 hole 1
via -0.731,-21.519 diameter 2 hole 1
via 3.693,-21.461 diameter 2 hole 1
via 8.118,-21.48 diameter 2 hole 1
via 12.541,-21.576 diameter 2 hole 1
via 16.962,-21.75 diameter 2 hole 1
via 21.412,-21.502 diameter 2 hole 1
via 25.833,-21.831 diameter 2 hole 1
via 30.247,-22.236 diameter 2 hole 1
via 33.553,-22.591 diameter 2 hole 1
via 37.888,-23.627 diameter 2 hole 1
via 42.269,-24.243 diameter 2 hole 1
via 46.639,-24.935 diameter 2 hole 1
via 50.905,-26.195 diameter 2 hole 1
via 55.239,-27.037 diameter 2 hole 1
via 59.559,-27.955 diameter 2 hole 1
via 63.861,-28.949 diameter 2 hole 1
via 72.277,-31.642 diameter 2 hole 1
via 68.146,-30.017 diameter 2 hole 1
via 76.371,-33.336 diameter 2 hole 1
via 93.808,7.342 diameter 2 hole 1
via 88.868,8.852 diameter 2 hole 1
via 83.902,10.276 diameter 2 hole 1
via 78.912,11.613 diameter 2 hole 1
via 74.016,13.349 diameter 2 hole 1
via 68.974,14.513 diameter 2 hole 1
via 63.912,15.589 diameter 2 hole 1
via 58.832,16.577 diameter 2 hole 1
via 53.736,17.475 diameter 2 hole 1
via 48.625,18.285 diameter 2 hole 1
via 43.566,19.501 diameter 2 hole 1
via 38.421,20.133 diameter 2 hole 1
via 33.266,20.674 diameter 2 hole 1
via 28.102,21.126 diameter 2 hole 1
via 22.931,21.488 diameter 2 hole 1
via 17.754,21.759 diameter 2 hole 1
via 12.561,21.44 diameter 2 hole 1
via 7.387,21.53 diameter 2 hole 1
via 2.212,21.53 diameter 2 hole 1
via -2.962,21.44 diameter 2 hole 1
via -8.134,21.259 diameter 2 hole 1
via -13.301,20.989 diameter 2 hole 1
via -18.424,20.129 diameter 2 hole 1
via -23.571,19.679 diameter 2 hole 1
via -28.709,19.139 diameter 2 hole 1
via -33.836,18.509 diameter 2 hole 1
via -38.952,17.79 diameter 2 hole 1
via -44.055,16.982 diameter 2 hole 1
via -49.142,16.085 diameter 2 hole 1
via -54.114,14.609 diameter 2 hole 1
via -59.158,13.537 diameter 2 hole 1
via -64.184,12.377 diameter 2 hole 1
via -69.188,11.129 diameter 2 hole 1
via -74.169,9.794 diameter 2 hole 1
via -78.985,7.894 diameter 2 hole 1
via -83.758,5.911 diameter 2 hole 1
via -88.647,4.323 diameter 2 hole 1
via -93.34,2.178 diameter 2 hole 1
via -98.161,0.423 diameter 2 hole 1
via -102.769,-1.881 diameter 2 hole 1
via -65.158,-34.946 diameter 2 hole 1
via -85.266,-43.354 diameter 2 hole 1
via -81.384,-41.349 diameter 2 hole 1
via -77.623,-38.936 diameter 2 hole 1
via -73.492,-37.533 diameter 2 hole 1
via -69.336,-36.203 diameter 2 hole 1
via -61.09,-33.279 diameter 2 hole 1
via -56.985,-31.681 diameter 2 hole 1
via -52.844,-30.153 diameter 2 hole 1
via -48.563,-29.185 diameter 2 hole 1
via -44.266,-28.291 diameter 2 hole 1
via -39.953,-27.472 diameter 2 hole 1
via -35.708,-26.235 diameter 2 hole 1
via -27.066,-24.477 diameter 2 hole 1
via -31.361,-25.566 diameter 2 hole 1
via -22.744,-23.462 diameter 2 hole 1
via -18.35,-23.02 diameter 2 hole 1
via -13.95,-22.654 diameter 2 hole 1
via -9.572,-21.866 diameter 2 hole 1
via -5.153,-21.654 diameter 2 hole 1
via -0.731,-21.519 diameter 2 hole 1
via 3.693,-21.461 diameter 2 hole 1
via 8.118,-21.48 diameter 2 hole 1
via 12.541,-21.576 diameter 2 hole 1
via 16.962,-21.75 diameter 2 hole 1
via 21.412,-21.502 diameter 2 hole 1
via 25.833,-21.831 diameter 2 hole 1
via 30.247,-22.236 diameter 2 hole 1
via 33.553,-22.591 diameter 2 hole 1
via 37.888,-23.627 diameter 2 hole 1
via 42.269,-24.243 diameter 2 hole 1
via 46.639,-24.935 diameter 2 hole 1
via 50.905,-26.195 diameter 2 hole 1
via 55.239,-27.037 diameter 2 hole 1
via 59.559,-27.955 diameter 2 hole 1
via 63.861,-28.949 diameter 2 hole 1
via 72.277,-31.642 diameter 2 hole 1
via 68.146,-30.017 diameter 2 hole 1
via 76.371,-33.336 diameter 2 hole 1
via 93.808,7.342 diameter 2 hole 1
via 88.868,8.852 diameter 2 hole 1
via 83.902,10.276 diameter 2 hole 1
via 78.912,11.613 diameter 2 hole 1
via 74.016,13.349 diameter 2 hole 1
via 68.974,14.513 diameter 2 hole 1
via 63.912,15.589 diameter 2 hole 1
via 58.832,16.577 diameter 2 hole 1
via 53.736,17.475 diameter 2 hole 1
via 48.625,18.285 diameter 2 hole 1
via 43.566,19.501 diameter 2 hole 1
via 38.421,20.133 diameter 2 hole 1
via 33.266,20.674 diameter 2 hole 1
via 28.102,21.126 diameter 2 hole 1
via 22.931,21.488 diameter 2 hole 1
via 17.754,21.759 diameter 2 hole 1
via 12.561,21.44 diameter 2 hole 1
via 7.387,21.53 diameter 2 hole 1
via 2.212,21.53 diameter 2 hole 1
via -2.962,21.44 diameter 2 hole 1
via -8.134,21.259 diameter 2 hole 1
via -13.301,20.989 diameter 2 hole 1
via -18.424,20.129 diameter 2 hole 1
via -23.571,19.679 diameter 2 hole 1
via -28.709,19.139 diameter 2 hole 1
via -33.836,18.509 diameter 2 hole 1
via -38.952,17.79 diameter 2 hole 1
via -44.055,16.982 diameter 2 hole 1
via -49.142,16.085 diameter 2 hole 1
via -54.114,14.609 diameter 2 hole 1
via -59.158,13.537 diameter 2 hole 1
via -64.184,12.377 diameter 2 hole 1
via -69.188,11.129 diameter 2 hole 1
via -74.169,9.794 diameter 2 hole 1
via -78.985,7.894 diameter 2 hole 1
via -83.758,5.911 diameter 2 hole 1
via -88.647,4.323 diameter 2 hole 1
via -93.34,2.178 diameter 2 hole 1
via -98.161,0.423 diameter 2 hole 1
via -102.769,-1.881 diameter 2 hole 1
via 79.353,-23.268 diameter 1.6 hole 1.5
via 80.063,-20.871 diameter 1.6 hole 1.5
via 80.774,-18.474 diameter 1.6 hole 1.5
via 81.484,-16.077 diameter 1.6 hole 1.5
via 82.194,-13.68 diameter 1.6 hole 1.5
via 82.904,-11.283 diameter 1.6 hole 1.5
via 83.614,-8.886 diameter 1.6 hole 1.5
via 84.324,-6.489 diameter 1.6 hole 1.5
via 85.034,-4.092 diameter 1.6 hole 1.5
via 85.238,-19.839 diameter 1.6 hole 1.5
via 80.577,-34.622 diameter 2 hole 1
via 80.577,-34.622 diameter 2 hole 1
via 80.577,-34.622 diameter 2 hole 1
via 80.577,-34.622 diameter 2 hole 1
via 80.577,-34.622 diameter 2 hole 1
via 80.577,-34.622 diameter 2 hole 1
via 80.577,-34.622 diameter 2 hole 1
via 85.744,-1.694 diameter 1.6 hole 1.5
via 86.454,0.703 diameter 1.6 hole 1.5
via 85.99,-17.455 diameter 1.6 hole 1.5
via 86.742,-15.07 diameter 1.6 hole 1.5
via 87.494,-12.686 diameter 1.6 hole 1.5
via 88.245,-10.302 diameter 1.6 hole 1.5
via 88.997,-7.917 diameter 1.6 hole 1.5
via 89.749,-5.533 diameter 1.6 hole 1.5
via 89.678,-21.282 diameter 1.6 hole 1.5
via 90.472,-18.911 diameter 1.6 hole 1.5
via 90.501,-3.149 diameter 1.6 hole 1.5
via -101.912,-46.115 diameter 2 hole 1
via -102.968,-43.85 diameter 2 hole 1
via -104.025,-41.584 diameter 2 hole 1
via -105.081,-39.318 diameter 2 hole 1
via -106.138,-37.052 diameter 2 hole 1
via -107.194,-34.787 diameter 2 hole 1
via -108.251,-32.521 diameter 2 hole 1
via -109.307,-30.255 diameter 2 hole 1
via -110.364,-27.989 diameter 2 hole 1
via -111.421,-25.724 diameter 2 hole 1
via -112.477,-23.458 diameter 2 hole 1
via -113.534,-21.192 diameter 2 hole 1
via -114.59,-18.926 diameter 2 hole 1
via -115.647,-16.661 diameter 2 hole 1
via -116.703,-14.395 diameter 2 hole 1
via -117.76,-12.129 diameter 2 hole 1
via -118.816,-9.863 diameter 2 hole 1
via -115.798,-4.092 diameter 2 hole 1
via -112.242,-2.537 diameter 2 hole 1
via -108.666,-1.028 diameter 2 hole 1
via 98.722,5.746 diameter 2 hole 1
via 103.439,3.592 diameter 2 hole 1
via 84.76,-35.981 diameter 2 hole 1
via 88.919,-37.413 diameter 2 hole 1
via 93.39,-39.578 diameter 2 hole 1
via 97.485,-41.16 diameter 2 hole 1
via 101.551,-42.813 diameter 2 hole 1
via 102.01,-34.354 diameter 2 hole 1
via 106.194,-36.087 diameter 2 hole 1
via 110.348,-37.893 diameter 2 hole 1
via 103.439,3.592 diameter 2 hole 1
via 108.286,1.828 diameter 2 hole 1
via 113.1,-0.02 diameter 2 hole 1
via 117.286,-1.706 diameter 2 hole 1
via 84.76,-35.981 diameter 2 hole 1
via 93.39,-39.578 diameter 2 hole 1
via 97.485,-41.16 diameter 2 hole 1
via 101.551,-42.813 diameter 2 hole 1
via 110.348,-37.893 diameter 2 hole 1
via 106.194,-36.087 diameter 2 hole 1
via 102.01,-34.354 diameter 2 hole 1
via 98.722,5.746 diameter 2 hole 1
via 103.439,3.592 diameter 2 hole 1
via 108.286,1.828 diameter 2 hole 1
via 113.1,-0.02 diameter 2 hole 1
via 117.286,-1.706 diameter 2 hole 1
via 88.919,-37.413 diameter 2 hole 1
via 84.76,-35.981 diameter 2 hole 1
via 88.919,-37.413 diameter 2 hole 1
via 93.39,-39.578 diameter 2 hole 1
via 97.485,-41.16 diameter 2 hole 1
via 101.551,-42.813 diameter 2 hole 1
via 110.348,-37.893 diameter 2 hole 1
via 106.194,-36.087 diameter 2 hole 1
via 102.01,-34.354 diameter 2 hole 1
via 98.722,5.746 diameter 2 hole 1
via 103.439,3.592 diameter 2 hole 1
via 108.286,1.828 diameter 2 hole 1
via 113.1,-0.02 diameter 2 hole 1
via 117.286,-1.706 diameter 2 hole 1
via 84.76,-35.981 diameter 2 hole 1
via 88.919,-37.413 diameter 2 hole 1
via 93.39,-39.578 diameter 2 hole 1
via 97.485,-41.16 diameter 2 hole 1
via 101.551,-42.813 diameter 2 hole 1
via 102.01,-34.354 diameter 2 hole 1
via 106.194,-36.087 diameter 2 hole 1
via 110.348,-37.893 diameter 2 hole 1
via 98.722,5.746 diameter 2 hole 1
via 103.439,3.592 diameter 2 hole 1
via 108.286,1.828 diameter 2 hole 1
via 113.1,-0.02 diameter 2 hole 1
via 117.286,-1.706 diameter 2 hole 1
via 84.76,-35.981 diameter 2 hole 1
via 88.919,-37.413 diameter 2 hole 1
via 93.39,-39.578 diameter 2 hole 1
via 97.485,-41.16 diameter 2 hole 1
via 101.551,-42.813 diameter 2 hole 1
via 98.722,5.746 diameter 2 hole 1
via 103.439,3.592 diameter 2 hole 1
via 108.286,1.828 diameter 2 hole 1
via 113.1,-0.02 diameter 2 hole 1
via 117.286,-1.706 diameter 2 hole 1
via 84.76,-35.981 diameter 2 hole 1
via 88.919,-37.413 diameter 2 hole 1
via 93.39,-39.578 diameter 2 hole 1
via 97.485,-41.16 diameter 2 hole 1
via 101.551,-42.813 diameter 2 hole 1
via 102.01,-34.354 diameter 2 hole 1
via 106.194,-36.087 diameter 2 hole 1
via 110.348,-37.893 diameter 2 hole 1
via 98.722,5.746 diameter 2 hole 1
via 103.439,3.592 diameter 2 hole 1
via 108.286,1.828 diameter 2 hole 1
via 113.1,-0.02 diameter 2 hole 1
via 117.286,-1.706 diameter 2 hole 1
via 102.01,-34.354 diameter 2 hole 1
via 106.194,-36.087 diameter 2 hole 1
via 110.348,-37.893 diameter 2 hole 1
via 98.722,5.746 diameter 2 hole 1
Top Layer:
  lines w2: -102.769,-1.881 -107.145,-11.234 -95.423,-38.849 -97.354,-53.371 -95.679,-57.004 ; -98.161,0.423 -102.525,-9.32 -91.287,-37.136 -93.755,-52.294 -92.339,-55.495 ; -93.34,2.178 -98.052,-7.021 -87.301,-35.028 -90.636,-51.483 -89.458,-54.242 ; -88.647,4.323 -93.531,-4.797 -83.271,-32.987 -85.266,-43.354 ; -83.758,5.911 -88.801,-3.122 -79.034,-31.487 -81.384,-41.349 ; -78.985,7.894 -84.197,-1.054 -74.927,-29.586 -77.623,-38.936 ; -74.169,9.794 -79.257,-0.021 -70.632,-28.232 -73.492,-37.533 ; -69.336,-36.203 -66.453,-26.472 -74.722,2.366 -69.188,11.129 ; -65.158,-34.946 -62.105,-25.266 -69.87,3.711 -64.184,12.377 ; -61.09,-33.279 -57.858,-23.652 -65.116,5.457 -59.158,13.537 ; -56.985,-31.681 -53.463,-22.596 -60.211,6.635 -54.114,14.609 ; -52.844,-30.153 -49.154,-21.129 -55.391,8.215 -49.142,16.085 ; -48.563,-29.185 -44.716,-20.226 -50.44,9.223 -44.055,16.982 ; -44.266,-28.291 -40.262,-19.401 -45.385,9.651 -38.952,17.79 ; -39.953,-27.472 -35.795,-18.653 -40.488,10.977 -33.836,18.509 ; -35.708,-26.235 -31.386,-17.489 -35.561,12.219 -28.709,19.139 ; -31.361,-25.566 -26.887,-16.896 -30.543,12.88 -23.571,19.679 ; -27.066,-24.477 -22.378,-16.383 -25.514,13.453 -18.424,20.129 ; -22.744,-23.462 -17.905,-15.45 -20.519,14.436 -13.301,20.989 ; -18.35,-23.02 -13.372,-15.093 -15.465,14.834 -8.134,21.259 ; -13.95,-22.654 -8.834,-14.815 -10.404,15.144 -2.962,21.44 ; -9.572,-21.866 -4.292,-14.617 -5.339,15.365 2.212,21.53 ; -5.153,-21.654 0.253,-14.498 -0.271,15.497 7.387,21.53 ; -0.731,-21.519 4.799,-14.458 4.799,15.542 12.561,21.44 ; 3.693,-21.461 9.346,-14.498 9.869,15.497 17.754,21.759 ; 8.118,-21.48 13.908,-14.117 14.955,15.864 22.931,21.488 ; 12.541,-21.576 18.459,-14.316 20.029,15.643 28.102,21.126 ; 16.962,-21.75 22.971,-15.093 ; 21.412,-21.502 27.547,-14.951 30.162,14.934 38.421,20.133 ; 23.006,-14.594 25.099,15.333 33.266,20.674 ; 25.833,-21.831 32.081,-15.388 35.217,14.448 43.566,19.501 ; 30.247,-22.236 36.597,-15.989 40.202,13.376 48.625,18.285 ; 33.553,-22.591 41.124,-16.498 45.299,13.21 53.736,17.475 ; 37.888,-23.627 45.629,-17.172 50.322,12.459 58.832,16.577 ; 42.269,-24.243 50.035,-18.416 55.244,11.128 63.912,15.589 ; 46.639,-24.935 54.505,-19.244 60.229,10.204 68.974,14.513 ; 50.905,-26.195 58.96,-20.151 65.198,9.194 74.016,13.349 ; 55.239,-27.037 63.399,-21.135 70.148,8.096 78.912,11.613 ; 59.559,-27.955 67.82,-22.196 75.078,6.913 83.902,10.276 ; 63.861,-28.949 72.092,-23.818 79.857,5.16 88.868,8.852 ; 68.146,-30.017 76.465,-25.03 84.734,3.808 93.808,7.342 ; 72.277,-31.642 80.816,-26.319 89.587,2.37 98.722,5.746 ; 76.371,-33.336 84.989,-28.159 94.26,0.373 103.439,3.592 ; 80.577,-34.622 89.284,-29.596 99.051,-1.231 108.286,1.828 ; 84.76,-35.981 93.554,-31.108 103.814,-2.917 113.1,-0.02 ; 88.919,-37.413 97.796,-32.694 108.547,-4.687 117.286,-1.706 ; 93.39,-39.578 102.01,-34.354 ; 97.485,-41.16 106.194,-36.087 ; 101.551,-42.813 110.348,-37.893
Mid-Layer 1:
  lines w2: -102.968,-43.85 -93.812,-39.797 ; -102.769,-1.881 -93.531,-4.797 -83.271,-32.987 -73.492,-37.533 ; -101.912,-46.115 -96.39,-43.621 -87.166,-47.335 -82.179,-45.383 -81.384,-41.349 ; -100.855,-48.381 -97.88,-47.018 ; -98.161,0.423 -88.639,-3.594 -78.872,-31.96 -69.336,-36.203 ; -97.383,-46.794 -87.512,-50.715 -79.63,-47.63 -77.623,-38.936 ; -93.34,2.178 -84.043,-1.53 -74.927,-29.586 -65.158,-34.946 ; -93.299,-39.582 -85.266,-43.354 ; -88.647,4.323 -79.404,0.457 -70.632,-28.232 -61.09,-33.279 ; -83.758,5.911 -74.722,2.366 -66.453,-26.472 -56.985,-31.681 ; -78.985,7.894 -69.87,3.711 -62.105,-25.266 -52.844,-30.153 ; -74.169,9.794 -64.995,4.972 -57.858,-23.652 -48.563,-29.185 ; -69.188,11.129 -60.099,6.147 -53.463,-22.596 -44.266,-28.291 ; -64.184,12.377 -55.287,7.726 -49.154,-21.129 -39.953,-27.472 ; -59.158,13.537 -50.44,9.223 -44.716,-20.226 -35.708,-26.235 ; -54.114,14.609 -45.472,10.144 -40.262,-19.401 -31.361,-25.566 ; -49.142,16.085 -40.488,10.977 -35.795,-18.653 -27.066,-24.477 ; -44.055,16.982 -35.561,12.219 -31.386,-17.489 -22.744,-23.462 ; -38.952,17.79 -30.543,12.88 -26.887,-16.896 -18.35,-23.02 ; -33.836,18.509 -25.514,13.453 -22.378,-16.383 -13.95,-22.654 ; -28.709,19.139 -20.519,14.436 -17.905,-15.45 -9.572,-21.866 ; -23.571,19.679 -15.465,14.834 -13.372,-15.093 -5.153,-21.654 ; -18.424,20.129 -10.404,15.144 -8.834,-14.815 -0.731,-21.519 ; -13.301,20.989 -5.339,15.365 -4.292,-14.617 3.693,-21.461 ; -8.134,21.259 -0.271,15.497 0.253,-14.498 8.118,-21.48 ; -2.962,21.44 4.799,15.542 4.799,-14.458 12.541,-21.576 ; 2.212,21.53 9.878,15.997 9.346,-14.498 16.962,-21.75 ; 7.387,21.53 14.955,15.864 13.908,-14.117 21.412,-21.502 ; 12.561,21.44 20.029,15.643 18.459,-14.316 25.833,-21.831 ; 17.754,21.759 25.099,15.333 23.006,-14.594 30.247,-22.236 ; 22.931,21.488 30.162,14.934 27.547,-14.951 33.553,-22.591 ; 28.102,21.126 35.217,14.448 32.081,-15.388 37.888,-23.627 ; 33.266,20.674 40.263,13.873 36.607,-15.904 42.269,-24.243 ; 38.421,20.133 45.299,13.21 41.124,-16.498 46.639,-24.935 ; 43.566,19.501 50.322,12.459 45.629,-17.172 50.905,-26.195 ; 48.625,18.285 55.244,11.128 50.035,-18.416 55.239,-27.037 ; 53.736,17.475 60.229,10.204 54.505,-19.244 59.559,-27.955 ; 58.832,16.577 65.198,9.194 58.96,-20.151 63.861,-28.949 ; 63.912,15.589 70.148,8.096 63.399,-21.135 68.146,-30.017 ; 68.974,14.513 75.078,6.913 67.82,-22.196 72.277,-31.642 ; 74.016,13.349 79.857,5.16 72.092,-23.818 76.371,-33.336 ; 78.912,11.613 84.596,3.327 76.465,-25.03 80.577,-34.622 ; 83.902,10.276 89.441,1.892 80.816,-26.319 84.76,-35.981 ; 88.868,8.852 94.26,0.373 84.989,-28.159 88.919,-37.413 ; 93.39,-39.578 89.284,-29.596 99.051,-1.231 93.808,7.342 ; 97.485,-41.16 93.554,-31.108 103.814,-2.917 98.722,5.746 ; 101.551,-42.813 97.796,-32.694 108.547,-4.687 103.439,3.592 ; 102.01,-34.354 113.248,-6.539 108.286,1.828 ; 106.194,-36.087 117.916,-8.472 113.1,-0.02 ; 110.348,-37.893 122.55,-10.487 ; 117.286,-1.706 122.753,-10.03
Mid-Layer 2:
  lines w2: -102.968,-43.85 -94.837,-40.229 -107.145,-11.234 -102.769,-1.881 ; -101.912,-46.115 -96.39,-43.621 -92.688,-45.292 -91.287,-37.136 -102.525,-9.32 -98.161,0.423 ; -100.855,-48.381 -97.383,-46.794 -90.243,-49.687 -87.301,-35.028 -98.052,-7.021 -93.34,2.178 ; -88.647,4.323 -93.531,-4.797 -83.271,-32.987 -85.266,-43.354 ; -83.758,5.911 -88.801,-3.122 -79.034,-31.487 -81.384,-41.349 ; -78.985,7.894 -84.197,-1.054 -74.927,-29.586 -77.623,-38.936 ; -74.169,9.794 -79.257,-0.021 -70.632,-28.232 -73.492,-37.533 ; -69.336,-36.203 -66.453,-26.472 -74.722,2.366 -69.188,11.129 ; -65.158,-34.946 -62.105,-25.266 -69.87,3.711 -64.184,12.377 ; -61.09,-33.279 -57.858,-23.652 -65.116,5.457 -59.158,13.537 ; -56.985,-31.681 -53.463,-22.596 -60.211,6.635 -54.114,14.609 ; -52.844,-30.153 -49.154,-21.129 -55.391,8.215 -49.142,16.085 ; -48.563,-29.185 -44.716,-20.226 -50.44,9.223 -44.055,16.982 ; -44.266,-28.291 -40.262,-19.401 -45.385,9.651 -38.952,17.79 ; -39.953,-27.472 -35.795,-18.653 -40.488,10.977 -33.836,18.509 ; -35.708,-26.235 -31.386,-17.489 -35.561,12.219 -28.709,19.139 ; -31.361,-25.566 -26.887,-16.896 -30.543,12.88 -23.571,19.679 ; -27.066,-24.477 -22.378,-16.383 -25.514,13.453 -18.424,20.129 ; -22.744,-23.462 -17.905,-15.45 -20.519,14.436 -13.301,20.989 ; -18.35,-23.02 -13.372,-15.093 -15.465,14.834 -8.134,21.259 ; -13.95,-22.654 -8.834,-14.815 -10.404,15.144 -2.962,21.44 ; -9.572,-21.866 -4.292,-14.617 -5.339,15.365 2.212,21.53 ; -5.153,-21.654 0.253,-14.498 -0.271,15.497 7.387,21.53 ; -0.731,-21.519 4.799,-14.458 4.799,15.542 12.561,21.44 ; 3.693,-21.461 9.346,-14.498 9.869,15.497 17.754,21.759 ; 8.118,-21.48 13.908,-14.117 14.955,15.864 22.931,21.488 ; 12.541,-21.576 18.459,-14.316 20.029,15.643 28.102,21.126 ; 16.962,-21.75 22.971,-15.093 ; 21.412,-21.502 27.547,-14.951 30.162,14.934 38.421,20.133 ; 23.006,-14.594 25.099,15.333 33.266,20.674 ; 25.833,-21.831 32.081,-15.388 35.217,14.448 43.566,19.501 ; 30.247,-22.236 36.597,-15.989 40.202,13.376 48.625,18.285 ; 33.553,-22.591 41.124,-16.498 45.299,13.21 53.736,17.475 ; 37.888,-23.627 45.629,-17.172 50.322,12.459 58.832,16.577 ; 42.269,-24.243 50.035,-18.416 55.244,11.128 63.912,15.589 ; 46.639,-24.935 54.505,-19.244 60.229,10.204 68.974,14.513 ; 50.905,-26.195 58.96,-20.151 65.198,9.194 74.016,13.349 ; 55.239,-27.037 63.399,-21.135 70.148,8.096 78.912,11.613 ; 59.559,-27.955 67.82,-22.196 75.078,6.913 83.902,10.276 ; 63.861,-28.949 72.092,-23.818 79.857,5.16 88.868,8.852 ; 68.146,-30.017 76.465,-25.03 84.734,3.808 93.808,7.342 ; 72.277,-31.642 80.816,-26.319 89.587,2.37 98.722,5.746 ; 76.371,-33.336 84.989,-28.159 94.26,0.373 103.439,3.592 ; 80.577,-34.622 89.284,-29.596 99.051,-1.231 108.286,1.828 ; 84.76,-35.981 93.554,-31.108 103.814,-2.917 113.1,-0.02 ; 88.919,-37.413 97.796,-32.694 108.547,-4.687 117.286,-1.706 ; 93.39,-39.578 102.01,-34.354 ; 97.485,-41.16 106.194,-36.087 ; 101.551,-42.813 110.348,-37.893
Mid-Layer 3:
  lines w2: -106.138,-37.052 -97.767,-33.326 -95.423,-38.849 -85.266,-43.354 ; -105.081,-39.318 -99.395,-36.749 -96.39,-43.621 -87.166,-47.335 -82.179,-45.383 -81.384,-41.349 ; -104.025,-41.584 -100.961,-40.179 -97.88,-47.018 -97.383,-46.794 -87.512,-50.715 -79.63,-47.63 -77.623,-38.936 ; -102.769,-1.881 -93.531,-4.797 -83.271,-32.987 -73.492,-37.533 ; -98.161,0.423 -88.639,-3.594 -78.872,-31.96 -69.336,-36.203 ; -93.34,2.178 -84.043,-1.53 -74.927,-29.586 -65.158,-34.946 ; -88.647,4.323 -79.404,0.457 -70.632,-28.232 -61.09,-33.279 ; -83.758,5.911 -74.722,2.366 -66.453,-26.472 -56.985,-31.681 ; -78.985,7.894 -69.87,3.711 -62.105,-25.266 -52.844,-30.153 ; -74.169,9.794 -64.995,4.972 -57.858,-23.652 -48.563,-29.185 ; -69.188,11.129 -60.099,6.147 -53.463,-22.596 -44.266,-28.291 ; -64.184,12.377 -55.287,7.726 -49.154,-21.129 -39.953,-27.472 ; -59.158,13.537 -50.44,9.223 -44.716,-20.226 -35.708,-26.235 ; -54.114,14.609 -45.472,10.144 -40.262,-19.401 -31.361,-25.566 ; -49.142,16.085 -40.488,10.977 -35.795,-18.653 -27.066,-24.477 ; -44.055,16.982 -35.561,12.219 -31.386,-17.489 -22.744,-23.462 ; -38.952,17.79 -30.543,12.88 -26.887,-16.896 -18.35,-23.02 ; -33.836,18.509 -25.514,13.453 -22.378,-16.383 -13.95,-22.654 ; -28.709,19.139 -20.519,14.436 -17.905,-15.45 -9.572,-21.866 ; -23.571,19.679 -15.465,14.834 -13.372,-15.093 -5.153,-21.654 ; -18.424,20.129 -10.404,15.144 -8.834,-14.815 -0.731,-21.519 ; -13.301,20.989 -5.339,15.365 -4.292,-14.617 3.693,-21.461 ; -8.134,21.259 -0.271,15.497 0.253,-14.498 8.118,-21.48 ; -2.962,21.44 4.799,15.542 4.799,-14.458 12.541,-21.576 ; 2.212,21.53 9.878,15.997 9.346,-14.498 16.962,-21.75 ; 7.387,21.53 14.955,15.864 13.908,-14.117 21.412,-21.502 ; 12.561,21.44 20.029,15.643 18.459,-14.316 25.833,-21.831 ; 17.754,21.759 25.099,15.333 23.006,-14.594 30.247,-22.236 ; 22.931,21.488 30.162,14.934 27.547,-14.951 33.553,-22.591 ; 28.102,21.126 35.217,14.448 32.081,-15.388 37.888,-23.627 ; 33.266,20.674 40.263,13.873 36.607,-15.904 42.269,-24.243 ; 38.421,20.133 45.299,13.21 41.124,-16.498 46.639,-24.935 ; 43.566,19.501 50.322,12.459 45.629,-17.172 50.905,-26.195 ; 48.625,18.285 55.244,11.128 50.035,-18.416 55.239,-27.037 ; 53.736,17.475 60.229,10.204 54.505,-19.244 59.559,-27.955 ; 58.832,16.577 65.198,9.194 58.96,-20.151 63.861,-28.949 ; 63.912,15.589 70.148,8.096 63.399,-21.135 68.146,-30.017 ; 68.974,14.513 75.078,6.913 67.82,-22.196 72.277,-31.642 ; 74.016,13.349 79.857,5.16 72.092,-23.818 76.371,-33.336 ; 78.912,11.613 84.596,3.327 76.465,-25.03 80.577,-34.622 ; 83.902,10.276 89.441,1.892 80.816,-26.319 84.76,-35.981 ; 88.868,8.852 94.26,0.373 84.989,-28.159 88.919,-37.413 ; 93.39,-39.578 89.284,-29.596 99.051,-1.231 93.808,7.342 ; 97.485,-41.16 93.554,-31.108 103.814,-2.917 98.722,5.746 ; 101.551,-42.813 97.796,-32.694 108.547,-4.687 103.439,3.592 ; 102.01,-34.354 113.248,-6.539 108.286,1.828 ; 106.194,-36.087 117.916,-8.472 113.1,-0.02 ; 110.348,-37.893 122.753,-10.03 117.286,-1.706
Mid-Layer 4:
  lines w2: -106.138,-37.052 -97.767,-33.326 -107.145,-11.234 -102.769,-1.881 ; -105.081,-39.318 -92.598,-33.891 -102.525,-9.32 -98.161,0.423 ; -104.025,-41.584 -87.48,-34.561 -98.052,-7.021 -93.34,2.178 ; -88.647,4.323 -93.531,-4.797 -83.271,-32.987 -85.266,-43.354 ; -83.758,5.911 -88.801,-3.122 -79.034,-31.487 -81.384,-41.349 ; -78.985,7.894 -84.197,-1.054 -74.927,-29.586 -77.623,-38.936 ; -74.169,9.794 -79.257,-0.021 -70.632,-28.232 -73.492,-37.533 ; -69.336,-36.203 -66.453,-26.472 -74.722,2.366 -69.188,11.129 ; -65.158,-34.946 -62.105,-25.266 -69.87,3.711 -64.184,12.377 ; -61.09,-33.279 -57.858,-23.652 -65.116,5.457 -59.158,13.537 ; -56.985,-31.681 -53.463,-22.596 -60.211,6.635 -54.114,14.609 ; -52.844,-30.153 -49.154,-21.129 -55.391,8.215 -49.142,16.085 ; -48.563,-29.185 -44.716,-20.226 -50.44,9.223 -44.055,16.982 ; -44.266,-28.291 -40.262,-19.401 -45.385,9.651 -38.952,17.79 ; -39.953,-27.472 -35.795,-18.653 -40.488,10.977 -33.836,18.509 ; -35.708,-26.235 -31.386,-17.489 -35.561,12.219 -28.709,19.139 ; -31.361,-25.566 -26.887,-16.896 -30.543,12.88 -23.571,19.679 ; -27.066,-24.477 -22.378,-16.383 -25.514,13.453 -18.424,20.129 ; -22.744,-23.462 -17.905,-15.45 -20.519,14.436 -13.301,20.989 ; -18.35,-23.02 -13.372,-15.093 -15.465,14.834 -8.134,21.259 ; -13.95,-22.654 -8.834,-14.815 -10.404,15.144 -2.962,21.44 ; -9.572,-21.866 -4.292,-14.617 -5.339,15.365 2.212,21.53 ; -5.153,-21.654 0.253,-14.498 -0.271,15.497 7.387,21.53 ; -0.731,-21.519 4.799,-14.458 4.799,15.542 12.561,21.44 ; 3.693,-21.461 9.346,-14.498 9.869,15.497 17.754,21.759 ; 8.118,-21.48 13.908,-14.117 14.955,15.864 22.931,21.488 ; 12.541,-21.576 18.459,-14.316 20.029,15.643 28.102,21.126 ; 16.962,-21.75 22.971,-15.093 ; 21.412,-21.502 27.547,-14.951 30.162,14.934 38.421,20.133 ; 23.006,-14.594 25.099,15.333 33.266,20.674 ; 25.833,-21.831 32.081,-15.388 35.217,14.448 43.566,19.501 ; 30.247,-22.236 36.597,-15.989 40.202,13.376 48.625,18.285 ; 33.553,-22.591 41.124,-16.498 45.299,13.21 53.736,17.475 ; 37.888,-23.627 45.629,-17.172 50.322,12.459 58.832,16.577 ; 42.269,-24.243 50.035,-18.416 55.244,11.128 63.912,15.589 ; 46.639,-24.935 54.505,-19.244 60.229,10.204 68.974,14.513 ; 50.905,-26.195 58.96,-20.151 65.198,9.194 74.016,13.349 ; 55.239,-27.037 63.399,-21.135 70.148,8.096 78.912,11.613 ; 59.559,-27.955 67.82,-22.196 75.078,6.913 83.902,10.276 ; 63.861,-28.949 72.092,-23.818 79.857,5.16 88.868,8.852 ; 68.146,-30.017 76.465,-25.03 84.734,3.808 93.808,7.342 ; 72.277,-31.642 80.816,-26.319 89.587,2.37 98.722,5.746 ; 76.371,-33.336 84.989,-28.159 94.26,0.373 103.439,3.592 ; 80.577,-34.622 89.284,-29.596 99.051,-1.231 108.286,1.828 ; 84.76,-35.981 93.554,-31.108 103.814,-2.917 113.1,-0.02 ; 88.919,-37.413 97.796,-32.694 108.547,-4.687 117.286,-1.706 ; 93.39,-39.578 102.01,-34.354 ; 97.485,-41.16 106.194,-36.087 ; 101.551,-42.813 110.348,-37.893
Mid-Layer 5:
  lines w2: -109.307,-30.255 -100.698,-26.422 -95.423,-38.849 -85.266,-43.354 ; -108.251,-32.521 -102.401,-29.878 -96.39,-43.621 -87.166,-47.335 -82.179,-45.383 -81.384,-41.349 ; -107.194,-34.787 -104.041,-33.341 -97.88,-47.018 -97.383,-46.794 -87.512,-50.715 -87.023,-50.515 -79.63,-47.63 -77.623,-38.936 ; -102.769,-1.881 -93.531,-4.797 -83.271,-32.987 -73.492,-37.533 ; -98.161,0.423 -88.639,-3.594 -78.872,-31.96 -69.336,-36.203 ; -93.34,2.178 -84.043,-1.53 -74.927,-29.586 -65.158,-34.946 ; -88.647,4.323 -79.404,0.457 -70.632,-28.232 -61.09,-33.279 ; -83.758,5.911 -74.722,2.366 -66.453,-26.472 -56.985,-31.681 ; -78.985,7.894 -69.87,3.711 -62.105,-25.266 -52.844,-30.153 ; -74.169,9.794 -64.995,4.972 -57.858,-23.652 -48.563,-29.185 ; -69.188,11.129 -60.099,6.147 -53.463,-22.596 -44.266,-28.291 ; -64.184,12.377 -55.287,7.726 -49.154,-21.129 -39.953,-27.472 ; -59.158,13.537 -50.44,9.223 -44.716,-20.226 -35.708,-26.235 ; -54.114,14.609 -45.472,10.144 -40.262,-19.401 -31.361,-25.566 ; -49.142,16.085 -40.488,10.977 -35.795,-18.653 -27.066,-24.477 ; -44.055,16.982 -35.561,12.219 -31.386,-17.489 -22.744,-23.462 ; -38.952,17.79 -30.543,12.88 -26.887,-16.896 -18.35,-23.02 ; -33.836,18.509 -25.514,13.453 -22.378,-16.383 -13.95,-22.654 ; -28.709,19.139 -20.519,14.436 -17.905,-15.45 -9.572,-21.866 ; -23.571,19.679 -15.465,14.834 -13.372,-15.093 -5.153,-21.654 ; -18.424,20.129 -10.404,15.144 -8.834,-14.815 -0.731,-21.519 ; -13.301,20.989 -5.339,15.365 -4.292,-14.617 3.693,-21.461 ; -8.134,21.259 -0.271,15.497 0.253,-14.498 8.118,-21.48 ; -2.962,21.44 4.799,15.542 4.799,-14.458 12.541,-21.576 ; 2.212,21.53 9.878,15.997 9.346,-14.498 16.962,-21.75 ; 7.387,21.53 14.955,15.864 13.908,-14.117 21.412,-21.502 ; 12.561,21.44 20.029,15.643 18.459,-14.316 25.833,-21.831 ; 17.754,21.759 25.099,15.333 23.006,-14.594 30.247,-22.236 ; 22.931,21.488 30.162,14.934 27.547,-14.951 33.553,-22.591 ; 28.102,21.126 35.217,14.448 32.081,-15.388 37.888,-23.627 ; 33.266,20.674 40.263,13.873 36.607,-15.904 42.269,-24.243 ; 38.421,20.133 45.299,13.21 41.124,-16.498 46.639,-24.935 ; 43.566,19.501 50.322,12.459 45.629,-17.172 50.905,-26.195 ; 48.625,18.285 55.244,11.128 50.035,-18.416 55.239,-27.037 ; 53.736,17.475 60.229,10.204 54.505,-19.244 59.559,-27.955 ; 58.832,16.577 65.198,9.194 58.96,-20.151 63.861,-28.949 ; 63.912,15.589 70.148,8.096 63.399,-21.135 68.146,-30.017 ; 68.974,14.513 75.078,6.913 67.82,-22.196 72.277,-31.642 ; 74.016,13.349 79.857,5.16 72.092,-23.818 76.371,-33.336 ; 78.912,11.613 84.596,3.327 76.465,-25.03 80.577,-34.622 ; 83.902,10.276 89.441,1.892 80.816,-26.319 84.76,-35.981 ; 88.868,8.852 94.26,0.373 84.989,-28.159 88.919,-37.413 ; 93.39,-39.578 89.284,-29.596 99.051,-1.231 93.808,7.342 ; 97.485,-41.16 93.554,-31.108 103.814,-2.917 98.722,5.746 ; 101.551,-42.813 97.796,-32.694 108.547,-4.687 103.439,3.592 ; 102.01,-34.354 113.248,-6.539 108.286,1.828 ; 106.194,-36.087 117.916,-8.472 113.1,-0.02 ; 110.348,-37.893 122.753,-10.03 117.286,-1.706
Mid-Layer 6:
  lines w2: -109.307,-30.255 -100.698,-26.422 ; -108.251,-32.521 -95.408,-26.937 -102.525,-9.32 -98.161,0.423 ; -107.194,-34.787 -90.168,-27.559 -98.052,-7.021 -93.34,2.178 ; -102.769,-1.881 -107.145,-11.234 -100.893,-25.962 ; -88.647,4.323 -93.531,-4.797 -83.271,-32.987 -85.266,-43.354 ; -83.758,5.911 -88.801,-3.122 -79.034,-31.487 -81.384,-41.349 ; -78.985,7.894 -84.197,-1.054 -74.927,-29.586 -77.623,-38.936 ; -74.169,9.794 -79.257,-0.021 -70.632,-28.232 -73.492,-37.533 ; -69.336,-36.203 -66.453,-26.472 -74.722,2.366 -69.188,11.129 ; -65.158,-34.946 -62.105,-25.266 -69.87,3.711 -64.184,12.377 ; -61.09,-33.279 -57.858,-23.652 -65.116,5.457 -59.158,13.537 ; -56.985,-31.681 -53.463,-22.596 -60.211,6.635 -54.114,14.609 ; -52.844,-30.153 -49.154,-21.129 -55.391,8.215 -49.142,16.085 ; -48.563,-29.185 -44.716,-20.226 -50.44,9.223 -44.055,16.982 ; -44.266,-28.291 -40.262,-19.401 -45.385,9.651 -38.952,17.79 ; -39.953,-27.472 -35.795,-18.653 -40.488,10.977 -33.836,18.509 ; -35.708,-26.235 -31.386,-17.489 -35.561,12.219 -28.709,19.139 ; -31.361,-25.566 -26.887,-16.896 -30.543,12.88 -23.571,19.679 ; -27.066,-24.477 -22.378,-16.383 -25.514,13.453 -18.424,20.129 ; -22.744,-23.462 -17.905,-15.45 -20.519,14.436 -13.301,20.989 ; -18.35,-23.02 -13.372,-15.093 -15.465,14.834 -8.134,21.259 ; -13.95,-22.654 -8.834,-14.815 -10.404,15.144 -2.962,21.44 ; -9.572,-21.866 -4.292,-14.617 -5.339,15.365 2.212,21.53 ; -5.153,-21.654 0.253,-14.498 -0.271,15.497 7.387,21.53 ; -0.731,-21.519 4.799,-14.458 4.799,15.542 12.561,21.44 ; 3.693,-21.461 9.346,-14.498 9.869,15.497 17.754,21.759 ; 8.118,-21.48 13.908,-14.117 14.955,15.864 22.931,21.488 ; 12.541,-21.576 18.459,-14.316 20.029,15.643 28.102,21.126 ; 16.962,-21.75 22.971,-15.093 ; 21.412,-21.502 27.547,-14.951 30.162,14.934 38.421,20.133 ; 23.006,-14.594 25.099,15.333 33.266,20.674 ; 25.833,-21.831 32.081,-15.388 35.217,14.448 43.566,19.501 ; 30.247,-22.236 36.597,-15.989 40.202,13.376 48.625,18.285 ; 33.553,-22.591 41.124,-16.498 45.299,13.21 53.736,17.475 ; 37.888,-23.627 45.629,-17.172 50.322,12.459 58.832,16.577 ; 42.269,-24.243 50.035,-18.416 55.244,11.128 63.912,15.589 ; 46.639,-24.935 54.505,-19.244 60.229,10.204 68.974,14.513 ; 50.905,-26.195 58.96,-20.151 65.198,9.194 74.016,13.349 ; 55.239,-27.037 63.399,-21.135 70.148,8.096 78.912,11.613 ; 59.559,-27.955 67.82,-22.196 75.078,6.913 83.902,10.276 ; 63.861,-28.949 72.092,-23.818 79.857,5.16 88.868,8.852 ; 68.146,-30.017 76.465,-25.03 84.734,3.808 93.808,7.342 ; 72.277,-31.642 80.816,-26.319 89.587,2.37 98.722,5.746 ; 76.371,-33.336 84.989,-28.159 94.26,0.373 103.439,3.592 ; 80.577,-34.622 89.284,-29.596 99.051,-1.231 108.286,1.828 ; 84.76,-35.981 93.554,-31.108 103.814,-2.917 113.1,-0.02 ; 88.919,-37.413 97.796,-32.694 108.547,-4.687 117.286,-1.706 ; 93.39,-39.578 102.01,-34.354 ; 97.485,-41.16 106.194,-36.087 ; 101.551,-42.813 110.348,-37.893
Mid-Layer 7:
  lines w2: -112.477,-23.458 -103.628,-19.518 -95.423,-38.849 -85.266,-43.354 ; -111.421,-25.724 -105.406,-23.007 -96.39,-43.621 -87.166,-47.335 -82.179,-45.383 -81.384,-41.349 ; -110.364,-27.989 -107.121,-26.503 -97.88,-47.018 -97.383,-46.794 -87.512,-50.715 -79.63,-47.63 -77.623,-38.936 ; -102.769,-1.881 -93.531,-4.797 -83.271,-32.987 -73.492,-37.533 ; -98.161,0.423 -88.639,-3.594 -78.872,-31.96 -69.336,-36.203 ; -93.34,2.178 -84.043,-1.53 -74.927,-29.586 -65.158,-34.946 ; -88.647,4.323 -79.404,0.457 -70.632,-28.232 -61.09,-33.279 ; -83.758,5.911 -74.722,2.366 -66.453,-26.472 -56.985,-31.681 ; -78.985,7.894 -69.87,3.711 -62.105,-25.266 -52.844,-30.153 ; -74.169,9.794 -64.995,4.972 -57.858,-23.652 -48.563,-29.185 ; -69.188,11.129 -60.099,6.147 -53.463,-22.596 -44.266,-28.291 ; -64.184,12.377 -55.287,7.726 -49.154,-21.129 -39.953,-27.472 ; -59.158,13.537 -50.44,9.223 -44.716,-20.226 -35.708,-26.235 ; -54.114,14.609 -45.472,10.144 -40.262,-19.401 -31.361,-25.566 ; -49.142,16.085 -40.488,10.977 -35.795,-18.653 -27.066,-24.477 ; -44.055,16.982 -35.561,12.219 -31.386,-17.489 -22.744,-23.462 ; -38.952,17.79 -30.543,12.88 -26.887,-16.896 -18.35,-23.02 ; -33.836,18.509 -25.514,13.453 -22.378,-16.383 -13.95,-22.654 ; -28.709,19.139 -20.519,14.436 -17.905,-15.45 -9.572,-21.866 ; -23.571,19.679 -15.465,14.834 -13.372,-15.093 -5.153,-21.654 ; -18.424,20.129 -10.404,15.144 -8.834,-14.815 -0.731,-21.519 ; -13.301,20.989 -5.339,15.365 -4.292,-14.617 3.693,-21.461 ; -8.134,21.259 -0.271,15.497 0.253,-14.498 8.118,-21.48 ; -2.962,21.44 4.799,15.542 4.799,-14.458 12.541,-21.576 ; 2.212,21.53 9.878,15.997 9.346,-14.498 16.962,-21.75 ; 7.387,21.53 14.955,15.864 13.908,-14.117 21.412,-21.502 ; 12.561,21.44 20.029,15.643 18.459,-14.316 25.833,-21.831 ; 17.754,21.759 25.099,15.333 23.006,-14.594 30.247,-22.236 ; 22.931,21.488 30.162,14.934 27.547,-14.951 33.553,-22.591 ; 28.102,21.126 35.217,14.448 32.081,-15.388 37.888,-23.627 ; 33.266,20.674 40.263,13.873 36.607,-15.904 42.269,-24.243 ; 38.421,20.133 45.299,13.21 41.124,-16.498 46.639,-24.935 ; 43.566,19.501 50.322,12.459 45.629,-17.172 50.905,-26.195 ; 48.625,18.285 55.244,11.128 50.035,-18.416 55.239,-27.037 ; 53.736,17.475 60.229,10.204 54.505,-19.244 59.559,-27.955 ; 58.832,16.577 65.198,9.194 58.96,-20.151 63.861,-28.949 ; 63.912,15.589 70.148,8.096 63.399,-21.135 68.146,-30.017 ; 68.974,14.513 75.078,6.913 67.82,-22.196 72.277,-31.642 ; 74.016,13.349 79.857,5.16 72.092,-23.818 76.371,-33.336 ; 78.912,11.613 84.596,3.327 76.465,-25.03 80.577,-34.622 ; 83.902,10.276 89.441,1.892 80.816,-26.319 84.76,-35.981 ; 88.868,8.852 94.26,0.373 84.989,-28.159 88.919,-37.413 ; 93.39,-39.578 89.284,-29.596 99.051,-1.231 93.808,7.342 ; 97.485,-41.16 93.554,-31.108 103.814,-2.917 98.722,5.746 ; 101.551,-42.813 97.796,-32.694 108.547,-4.687 103.439,3.592 ; 102.01,-34.354 113.248,-6.539 108.286,1.828 ; 106.194,-36.087 117.916,-8.472 113.1,-0.02 ; 110.348,-37.893 122.753,-10.03 117.286,-1.706
Mid-Layer 8:
  lines w2: -112.477,-23.458 -103.628,-19.518 -107.145,-11.234 -102.769,-1.881 ; -111.421,-25.724 -98.217,-19.983 ; -110.364,-27.989 -92.856,-20.558 -98.052,-7.021 -93.34,2.178 ; -98.404,-19.52 -102.525,-9.32 -98.161,0.423 ; -88.647,4.323 -93.531,-4.797 -83.271,-32.987 -85.266,-43.354 ; -83.758,5.911 -88.801,-3.122 -79.034,-31.487 -81.384,-41.349 ; -78.985,7.894 -84.197,-1.054 -74.927,-29.586 -77.623,-38.936 ; -74.169,9.794 -79.257,-0.021 -70.632,-28.232 -73.492,-37.533 ; -69.336,-36.203 -66.453,-26.472 -74.722,2.366 -69.188,11.129 ; -65.158,-34.946 -62.105,-25.266 -69.87,3.711 -64.184,12.377 ; -61.09,-33.279 -57.858,-23.652 -65.116,5.457 -59.158,13.537 ; -56.985,-31.681 -53.463,-22.596 -60.211,6.635 -54.114,14.609 ; -52.844,-30.153 -49.154,-21.129 -55.391,8.215 -49.142,16.085 ; -48.563,-29.185 -44.716,-20.226 -50.44,9.223 -44.055,16.982 ; -44.266,-28.291 -40.262,-19.401 -45.385,9.651 -38.952,17.79 ; -39.953,-27.472 -35.795,-18.653 -40.488,10.977 -33.836,18.509 ; -35.708,-26.235 -31.386,-17.489 -35.561,12.219 -28.709,19.139 ; -31.361,-25.566 -26.887,-16.896 -30.543,12.88 -23.571,19.679 ; -27.066,-24.477 -22.378,-16.383 -25.514,13.453 -18.424,20.129 ; -22.744,-23.462 -17.905,-15.45 -20.519,14.436 -13.301,20.989 ; -18.35,-23.02 -13.372,-15.093 -15.465,14.834 -8.134,21.259 ; -13.95,-22.654 -8.834,-14.815 -10.404,15.144 -2.962,21.44 ; -9.572,-21.866 -4.292,-14.617 -5.339,15.365 2.212,21.53 ; -5.153,-21.654 0.253,-14.498 -0.271,15.497 7.387,21.53 ; -0.731,-21.519 4.799,-14.458 4.799,15.542 12.561,21.44 ; 3.693,-21.461 9.346,-14.498 9.869,15.497 17.754,21.759 ; 8.118,-21.48 13.908,-14.117 14.955,15.864 22.931,21.488 ; 12.541,-21.576 18.459,-14.316 20.029,15.643 28.102,21.126 ; 16.962,-21.75 22.971,-15.093 ; 21.412,-21.502 27.547,-14.951 30.162,14.934 38.421,20.133 ; 23.006,-14.594 25.099,15.333 33.266,20.674 ; 25.833,-21.831 32.081,-15.388 35.217,14.448 43.566,19.501 ; 30.247,-22.236 36.597,-15.989 40.202,13.376 48.625,18.285 ; 33.553,-22.591 41.124,-16.498 45.299,13.21 53.736,17.475 ; 37.888,-23.627 45.629,-17.172 50.322,12.459 58.832,16.577 ; 42.269,-24.243 50.035,-18.416 55.244,11.128 63.912,15.589 ; 46.639,-24.935 54.505,-19.244 60.229,10.204 68.974,14.513 ; 50.905,-26.195 58.96,-20.151 65.198,9.194 74.016,13.349 ; 55.239,-27.037 63.399,-21.135 70.148,8.096 78.912,11.613 ; 59.559,-27.955 67.82,-22.196 75.078,6.913 83.902,10.276 ; 63.861,-28.949 72.092,-23.818 79.857,5.16 88.868,8.852 ; 68.146,-30.017 76.465,-25.03 84.734,3.808 93.808,7.342 ; 72.277,-31.642 80.816,-26.319 89.587,2.37 98.722,5.746 ; 76.371,-33.336 84.989,-28.159 94.26,0.373 103.439,3.592 ; 80.577,-34.622 89.284,-29.596 99.051,-1.231 108.286,1.828 ; 84.76,-35.981 93.554,-31.108 103.814,-2.917 113.1,-0.02 ; 88.919,-37.413 97.796,-32.694 108.547,-4.687 117.286,-1.706 ; 93.39,-39.578 102.01,-34.354 ; 97.485,-41.16 106.194,-36.087 ; 101.551,-42.813 110.348,-37.893
Mid-Layer 9:
  lines w2: -115.647,-16.661 -106.559,-12.614 -95.423,-38.849 -85.266,-43.354 ; -114.59,-18.926 -108.412,-16.135 -96.39,-43.621 -87.166,-47.335 -82.179,-45.383 -81.384,-41.349 ; -113.534,-21.192 -110.202,-19.665 -97.88,-47.018 -97.383,-46.794 -87.512,-50.715 -79.63,-47.63 -77.623,-38.936 ; -102.769,-1.881 -93.531,-4.797 -83.271,-32.987 -73.492,-37.533 ; -98.161,0.423 -88.639,-3.594 -78.872,-31.96 -69.336,-36.203 ; -93.34,2.178 -84.043,-1.53 -74.927,-29.586 -65.158,-34.946 ; -88.647,4.323 -79.404,0.457 -70.632,-28.232 -61.09,-33.279 ; -83.758,5.911 -74.722,2.366 -66.453,-26.472 -56.985,-31.681 ; -78.985,7.894 -69.87,3.711 -62.105,-25.266 -52.844,-30.153 ; -74.169,9.794 -64.995,4.972 -57.858,-23.652 -48.563,-29.185 ; -69.188,11.129 -60.099,6.147 -53.463,-22.596 -44.266,-28.291 ; -64.184,12.377 -55.287,7.726 -49.154,-21.129 -39.953,-27.472 ; -59.158,13.537 -50.44,9.223 -44.716,-20.226 -35.708,-26.235 ; -54.114,14.609 -45.472,10.144 -40.262,-19.401 -31.361,-25.566 ; -49.142,16.085 -40.488,10.977 -35.795,-18.653 -27.066,-24.477 ; -44.055,16.982 -35.561,12.219 -31.386,-17.489 -22.744,-23.462 ; -38.952,17.79 -30.543,12.88 -26.887,-16.896 -18.35,-23.02 ; -33.836,18.509 -25.514,13.453 -22.378,-16.383 -13.95,-22.654 ; -28.709,19.139 -20.519,14.436 -17.905,-15.45 -9.572,-21.866 ; -23.571,19.679 -15.465,14.834 -13.372,-15.093 -5.153,-21.654 ; -18.424,20.129 -10.404,15.144 -8.834,-14.815 -0.731,-21.519 ; -13.301,20.989 -5.339,15.365 -4.292,-14.617 3.693,-21.461 ; -8.134,21.259 -0.271,15.497 0.253,-14.498 8.118,-21.48 ; -2.962,21.44 4.799,15.542 4.799,-14.458 12.541,-21.576 ; 2.212,21.53 9.878,15.997 9.346,-14.498 16.962,-21.75 ; 7.387,21.53 14.955,15.864 13.908,-14.117 21.412,-21.502 ; 12.561,21.44 20.029,15.643 18.459,-14.316 25.833,-21.831 ; 17.754,21.759 25.099,15.333 23.006,-14.594 30.247,-22.236 ; 22.931,21.488 30.162,14.934 27.547,-14.951 33.553,-22.591 ; 28.102,21.126 35.217,14.448 32.081,-15.388 37.888,-23.627 ; 33.266,20.674 40.263,13.873 36.607,-15.904 42.269,-24.243 ; 38.421,20.133 45.299,13.21 41.124,-16.498 46.639,-24.935 ; 43.566,19.501 50.322,12.459 45.629,-17.172 50.905,-26.195 ; 48.625,18.285 55.244,11.128 50.035,-18.416 55.239,-27.037 ; 53.736,17.475 60.229,10.204 54.505,-19.244 59.559,-27.955 ; 58.832,16.577 65.198,9.194 58.96,-20.151 63.861,-28.949 ; 63.912,15.589 70.148,8.096 63.399,-21.135 68.146,-30.017 ; 68.974,14.513 75.078,6.913 67.82,-22.196 72.277,-31.642 ; 74.016,13.349 79.857,5.16 72.092,-23.818 76.371,-33.336 ; 78.912,11.613 84.596,3.327 76.465,-25.03 80.577,-34.622 ; 83.902,10.276 89.441,1.892 80.816,-26.319 84.76,-35.981 ; 88.868,8.852 94.26,0.373 84.989,-28.159 88.919,-37.413 ; 93.39,-39.578 89.284,-29.596 99.051,-1.231 93.808,7.342 ; 97.485,-41.16 93.554,-31.108 103.814,-2.917 98.722,5.746 ; 101.551,-42.813 97.796,-32.694 108.547,-4.687 103.439,3.592 ; 102.01,-34.354 113.248,-6.539 108.286,1.828 ; 106.194,-36.087 117.916,-8.472 113.1,-0.02 ; 110.348,-37.893 122.55,-10.487 122.753,-10.03 117.286,-1.706
Mid-Layer 10:
  lines w2: -115.647,-16.661 -106.559,-12.614 -107.145,-11.234 -102.769,-1.881 ; -114.59,-18.926 -101.027,-13.029 -102.525,-9.32 -98.161,0.423 ; -113.534,-21.192 -95.544,-13.556 -98.052,-7.021 -93.34,2.178 ; -88.647,4.323 -93.531,-4.797 -83.271,-32.987 -85.266,-43.354 ; -83.758,5.911 -88.801,-3.122 -79.034,-31.487 -81.384,-41.349 ; -78.985,7.894 -84.197,-1.054 -74.927,-29.586 -77.623,-38.936 ; -74.169,9.794 -79.257,-0.021 -70.632,-28.232 -73.492,-37.533 ; -69.336,-36.203 -66.453,-26.472 -74.722,2.366 -69.188,11.129 ; -65.158,-34.946 -62.105,-25.266 -69.87,3.711 -64.184,12.377 ; -61.09,-33.279 -57.858,-23.652 -65.116,5.457 -59.158,13.537 ; -56.985,-31.681 -53.463,-22.596 -60.211,6.635 -54.114,14.609 ; -52.844,-30.153 -49.154,-21.129 -55.391,8.215 -49.142,16.085 ; -48.563,-29.185 -44.716,-20.226 -50.44,9.223 -44.055,16.982 ; -44.266,-28.291 -40.262,-19.401 -45.385,9.651 -38.952,17.79 ; -39.953,-27.472 -35.795,-18.653 -40.488,10.977 -33.836,18.509 ; -35.708,-26.235 -31.386,-17.489 -35.561,12.219 -28.709,19.139 ; -31.361,-25.566 -26.887,-16.896 -30.543,12.88 -23.571,19.679 ; -27.066,-24.477 -22.378,-16.383 -25.514,13.453 -18.424,20.129 ; -22.744,-23.462 -17.905,-15.45 -20.519,14.436 -13.301,20.989 ; -18.35,-23.02 -13.372,-15.093 -15.465,14.834 -8.134,21.259 ; -13.95,-22.654 -8.834,-14.815 -10.404,15.144 -2.962,21.44 ; -9.572,-21.866 -4.292,-14.617 -5.339,15.365 2.212,21.53 ; -5.153,-21.654 0.253,-14.498 -0.271,15.497 7.387,21.53 ; -0.731,-21.519 4.799,-14.458 4.799,15.542 12.561,21.44 ; 3.693,-21.461 9.346,-14.498 9.869,15.497 17.754,21.759 ; 8.118,-21.48 13.908,-14.117 14.955,15.864 22.931,21.488 ; 12.541,-21.576 18.459,-14.316 20.029,15.643 28.102,21.126 ; 16.962,-21.75 22.971,-15.093 ; 21.412,-21.502 27.547,-14.951 30.162,14.934 38.421,20.133 ; 23.006,-14.594 25.099,15.333 33.266,20.674 ; 25.833,-21.831 32.081,-15.388 35.217,14.448 43.566,19.501 ; 30.247,-22.236 36.597,-15.989 40.202,13.376 48.625,18.285 ; 33.553,-22.591 41.124,-16.498 45.299,13.21 53.736,17.475 ; 37.888,-23.627 45.629,-17.172 50.322,12.459 58.832,16.577 ; 42.269,-24.243 50.035,-18.416 55.244,11.128 63.912,15.589 ; 46.639,-24.935 54.505,-19.244 60.229,10.204 68.974,14.513 ; 50.905,-26.195 58.96,-20.151 65.198,9.194 74.016,13.349 ; 55.239,-27.037 63.399,-21.135 70.148,8.096 78.912,11.613 ; 59.559,-27.955 67.82,-22.196 75.078,6.913 83.902,10.276 ; 63.861,-28.949 72.092,-23.818 79.857,5.16 88.868,8.852 ; 68.146,-30.017 76.465,-25.03 84.734,3.808 93.808,7.342 ; 72.277,-31.642 80.816,-26.319 89.587,2.37 98.722,5.746 ; 76.371,-33.336 84.989,-28.159 94.26,0.373 103.439,3.592 ; 80.577,-34.622 89.284,-29.596 99.051,-1.231 108.286,1.828 ; 84.76,-35.981 93.554,-31.108 103.814,-2.917 113.1,-0.02 ; 88.919,-37.413 97.796,-32.694 108.547,-4.687 117.286,-1.706 ; 93.39,-39.578 102.01,-34.354 ; 97.485,-41.16 106.194,-36.087 ; 101.551,-42.813 110.348,-37.893
Mid-Layer 11:
  lines w2: -118.816,-9.863 -109.489,-5.711 -95.423,-38.849 -85.266,-43.354 ; -117.76,-12.129 -111.418,-9.264 -96.39,-43.621 -87.166,-47.335 -82.179,-45.383 -81.384,-41.349 ; -116.703,-14.395 -113.282,-12.827 -97.88,-47.018 -97.383,-46.794 -87.512,-50.715 -79.63,-47.63 -77.623,-38.936 ; -102.769,-1.881 -93.531,-4.797 -83.271,-32.987 -73.492,-37.533 ; -98.161,0.423 -88.639,-3.594 -78.872,-31.96 -69.336,-36.203 ; -93.34,2.178 -84.043,-1.53 -74.927,-29.586 -65.158,-34.946 ; -88.647,4.323 -79.404,0.457 -70.632,-28.232 -61.09,-33.279 ; -83.758,5.911 -74.722,2.366 -66.453,-26.472 -56.985,-31.681 ; -78.985,7.894 -69.87,3.711 -62.105,-25.266 -52.844,-30.153 ; -74.169,9.794 -64.995,4.972 -57.858,-23.652 -48.563,-29.185 ; -69.188,11.129 -60.099,6.147 -53.463,-22.596 -44.266,-28.291 ; -64.184,12.377 -55.287,7.726 -49.154,-21.129 -39.953,-27.472 ; -59.158,13.537 -50.44,9.223 -44.716,-20.226 -35.708,-26.235 ; -54.114,14.609 -45.472,10.144 -40.262,-19.401 -31.361,-25.566 ; -49.142,16.085 -40.488,10.977 -35.795,-18.653 -27.066,-24.477 ; -44.055,16.982 -35.561,12.219 -31.386,-17.489 -22.744,-23.462 ; -38.952,17.79 -30.543,12.88 -26.887,-16.896 -18.35,-23.02 ; -33.836,18.509 -25.514,13.453 -22.378,-16.383 -13.95,-22.654 ; -28.709,19.139 -20.519,14.436 -17.905,-15.45 -9.572,-21.866 ; -23.571,19.679 -15.465,14.834 -13.372,-15.093 -5.153,-21.654 ; -18.424,20.129 -10.404,15.144 -8.834,-14.815 -0.731,-21.519 ; -13.301,20.989 -5.339,15.365 -4.292,-14.617 3.693,-21.461 ; -8.134,21.259 -0.271,15.497 0.253,-14.498 8.118,-21.48 ; -2.962,21.44 4.799,15.542 4.799,-14.458 12.541,-21.576 ; 2.212,21.53 9.878,15.997 9.346,-14.498 16.962,-21.75 ; 7.387,21.53 14.955,15.864 13.908,-14.117 21.412,-21.502 ; 12.561,21.44 20.029,15.643 18.459,-14.316 25.833,-21.831 ; 17.754,21.759 25.099,15.333 23.006,-14.594 30.247,-22.236 ; 22.931,21.488 30.162,14.934 27.547,-14.951 33.553,-22.591 ; 28.102,21.126 35.217,14.448 32.081,-15.388 37.888,-23.627 ; 33.266,20.674 40.263,13.873 36.607,-15.904 42.269,-24.243 ; 38.421,20.133 45.299,13.21 41.124,-16.498 46.639,-24.935 ; 43.566,19.501 50.322,12.459 45.629,-17.172 50.905,-26.195 ; 48.625,18.285 55.244,11.128 50.035,-18.416 55.239,-27.037 ; 53.736,17.475 60.229,10.204 54.505,-19.244 59.559,-27.955 ; 58.832,16.577 65.198,9.194 58.96,-20.151 63.861,-28.949 ; 63.912,15.589 70.148,8.096 63.399,-21.135 68.146,-30.017 ; 68.974,14.513 75.078,6.913 67.82,-22.196 72.277,-31.642 ; 74.016,13.349 79.857,5.16 72.092,-23.818 76.371,-33.336 ; 78.912,11.613 84.596,3.327 76.465,-25.03 80.577,-34.622 ; 83.902,10.276 89.441,1.892 80.816,-26.319 84.76,-35.981 ; 88.868,8.852 94.26,0.373 84.989,-28.159 88.919,-37.413 ; 93.39,-39.578 89.284,-29.596 99.051,-1.231 93.808,7.342 ; 97.485,-41.16 93.554,-31.108 103.814,-2.917 98.722,5.746 ; 101.551,-42.813 97.796,-32.694 108.547,-4.687 103.439,3.592 ; 102.01,-34.354 113.248,-6.539 108.286,1.828 ; 106.194,-36.087 117.916,-8.472 113.1,-0.02 ; 110.348,-37.893 122.753,-10.03 117.286,-1.706
Mid-Layer 12:
  lines w2: -118.816,-9.863 -104.773,-3.757 -102.769,-1.881 ; -117.76,-12.129 -106.179,-7.033 -104.457,-11.191 -102.151,-10.247 -102.525,-9.32 -98.161,0.423 ; -116.703,-14.395 -107.536,-10.313 -105.582,-14.916 -96.435,-11.232 -98.052,-7.021 -93.34,2.178 ; -88.647,4.323 -93.531,-4.797 -83.271,-32.987 -85.266,-43.354 ; -83.758,5.911 -88.801,-3.122 -79.034,-31.487 -81.384,-41.349 ; -78.985,7.894 -84.197,-1.054 -74.927,-29.586 -77.623,-38.936 ; -74.169,9.794 -79.257,-0.021 -70.632,-28.232 -73.492,-37.533 ; -69.336,-36.203 -66.453,-26.472 -74.722,2.366 -69.188,11.129 ; -65.158,-34.946 -62.105,-25.266 -69.87,3.711 -64.184,12.377 ; -61.09,-33.279 -57.858,-23.652 -65.116,5.457 -59.158,13.537 ; -56.985,-31.681 -53.463,-22.596 -60.211,6.635 -54.114,14.609 ; -52.844,-30.153 -49.154,-21.129 -55.391,8.215 -49.142,16.085 ; -48.563,-29.185 -44.716,-20.226 -50.44,9.223 -44.055,16.982 ; -44.266,-28.291 -40.262,-19.401 -45.385,9.651 -38.952,17.79 ; -39.953,-27.472 -35.795,-18.653 -40.488,10.977 -33.836,18.509 ; -35.708,-26.235 -31.386,-17.489 -35.561,12.219 -28.709,19.139 ; -31.361,-25.566 -26.887,-16.896 -30.543,12.88 -23.571,19.679 ; -27.066,-24.477 -22.378,-16.383 -25.514,13.453 -18.424,20.129 ; -22.744,-23.462 -17.905,-15.45 -20.519,14.436 -13.301,20.989 ; -18.35,-23.02 -13.372,-15.093 -15.465,14.834 -8.134,21.259 ; -13.95,-22.654 -8.834,-14.815 -10.404,15.144 -2.962,21.44 ; -9.572,-21.866 -4.292,-14.617 -5.339,15.365 2.212,21.53 ; -5.153,-21.654 0.253,-14.498 -0.271,15.497 7.387,21.53 ; -0.731,-21.519 4.799,-14.458 4.799,15.542 12.561,21.44 ; 3.693,-21.461 9.346,-14.498 9.869,15.497 17.754,21.759 ; 8.118,-21.48 13.908,-14.117 14.955,15.864 22.931,21.488 ; 12.541,-21.576 18.459,-14.316 20.029,15.643 28.102,21.126 ; 16.962,-21.75 22.971,-15.093 ; 21.412,-21.502 27.547,-14.951 30.162,14.934 38.421,20.133 ; 23.006,-14.594 25.099,15.333 33.266,20.674 ; 25.833,-21.831 32.081,-15.388 35.217,14.448 43.566,19.501 ; 30.247,-22.236 36.597,-15.989 40.202,13.376 48.625,18.285 ; 33.553,-22.591 41.124,-16.498 45.299,13.21 53.736,17.475 ; 37.888,-23.627 45.629,-17.172 50.322,12.459 58.832,16.577 ; 42.269,-24.243 50.035,-18.416 55.244,11.128 63.912,15.589 ; 46.639,-24.935 54.505,-19.244 60.229,10.204 68.974,14.513 ; 50.905,-26.195 58.96,-20.151 65.198,9.194 74.016,13.349 ; 55.239,-27.037 63.399,-21.135 70.148,8.096 78.912,11.613 ; 59.559,-27.955 67.82,-22.196 75.078,6.913 83.902,10.276 ; 63.861,-28.949 72.092,-23.818 79.857,5.16 88.868,8.852 ; 68.146,-30.017 76.465,-25.03 84.734,3.808 93.808,7.342 ; 72.277,-31.642 80.816,-26.319 89.587,2.37 98.722,5.746 ; 76.371,-33.336 84.989,-28.159 94.26,0.373 103.439,3.592 ; 80.577,-34.622 89.284,-29.596 99.051,-1.231 108.286,1.828 ; 84.76,-35.981 93.554,-31.108 103.814,-2.917 113.1,-0.02 ; 88.919,-37.413 97.796,-32.694 108.547,-4.687 117.286,-1.706 ; 93.39,-39.578 102.01,-34.354 ; 97.485,-41.16 106.194,-36.087 ; 101.551,-42.813 110.348,-37.893
Bottom Layer:
  lines w2: -115.798,-4.092 -113.154,-10.03 -107.145,-11.234 -95.423,-38.849 -85.266,-43.354 ; -112.242,-2.537 -110.071,-7.59 -102.525,-9.32 -91.287,-37.136 -81.384,-41.348 ; -108.666,-1.028 -107.135,-4.724 -98.052,-7.021 -87.301,-35.028 -77.623,-38.936 ; -102.769,-1.881 -93.531,-4.797 -83.271,-32.987 -73.492,-37.533 ; -98.161,0.423 -88.639,-3.594 -78.872,-31.96 -69.336,-36.203 ; -93.34,2.178 -84.043,-1.53 -74.927,-29.586 -65.158,-34.946 ; -88.647,4.323 -79.404,0.457 -70.632,-28.232 -61.09,-33.279 ; -83.758,5.911 -74.722,2.366 -66.453,-26.472 -56.985,-31.681 ; -78.985,7.894 -69.87,3.711 -62.105,-25.266 -52.844,-30.153 ; -74.169,9.794 -64.995,4.972 -57.858,-23.652 -48.563,-29.185 ; -69.188,11.129 -60.099,6.147 -53.463,-22.596 -44.266,-28.291 ; -64.184,12.377 -55.287,7.726 -49.154,-21.129 -39.953,-27.472 ; -59.158,13.537 -50.44,9.223 -44.716,-20.226 -35.708,-26.235 ; -54.114,14.609 -45.472,10.144 -40.262,-19.401 -31.361,-25.566 ; -49.142,16.085 -40.488,10.977 -35.795,-18.653 -27.066,-24.477 ; -44.055,16.982 -35.561,12.219 -31.386,-17.489 -22.744,-23.462 ; -38.952,17.79 -30.543,12.88 -26.887,-16.896 -18.35,-23.02 ; -33.836,18.509 -25.514,13.453 -22.378,-16.383 -13.95,-22.654 ; -28.709,19.139 -20.519,14.436 -17.905,-15.45 -9.572,-21.866 ; -23.571,19.679 -15.465,14.834 -13.372,-15.093 -5.153,-21.654 ; -18.424,20.129 -10.404,15.144 -8.834,-14.815 -0.731,-21.519 ; -13.301,20.989 -5.339,15.365 -4.292,-14.617 3.693,-21.461 ; -8.134,21.259 -0.271,15.497 0.253,-14.498 8.118,-21.48 ; -2.962,21.44 4.799,15.542 4.799,-14.458 12.541,-21.576 ; 2.212,21.53 9.878,15.997 9.346,-14.498 16.962,-21.75 ; 7.387,21.53 14.955,15.864 13.908,-14.117 21.412,-21.502 ; 12.561,21.44 20.029,15.643 18.459,-14.316 25.833,-21.831 ; 17.754,21.759 25.099,15.333 23.006,-14.594 30.247,-22.236 ; 22.931,21.488 30.162,14.934 27.547,-14.951 33.553,-22.591 ; 28.102,21.126 35.217,14.448 32.081,-15.388 37.888,-23.627 ; 33.266,20.674 40.263,13.873 36.607,-15.904 42.269,-24.243 ; 38.421,20.133 45.299,13.21 41.124,-16.498 46.639,-24.935 ; 43.566,19.501 50.322,12.459 45.629,-17.172 50.905,-26.195 ; 48.625,18.285 55.244,11.128 50.035,-18.416 55.239,-27.037 ; 53.736,17.475 60.229,10.204 54.505,-19.244 59.559,-27.955 ; 58.832,16.577 65.198,9.194 58.96,-20.151 63.861,-28.949 ; 63.912,15.589 70.148,8.096 63.399,-21.135 68.146,-30.017 ; 68.974,14.513 75.078,6.913 67.82,-22.196 72.277,-31.642 ; 74.016,13.349 79.857,5.16 72.092,-23.818 76.371,-33.336 ; 78.912,11.613 84.596,3.327 76.465,-25.03 80.577,-34.622 ; 83.902,10.276 89.441,1.892 80.816,-26.319 84.76,-35.981 ; 88.868,8.852 94.26,0.373 84.989,-28.159 88.919,-37.413 ; 93.39,-39.578 89.284,-29.596 99.051,-1.231 93.808,7.342 ; 97.485,-41.16 93.554,-31.108 103.814,-2.917 98.722,5.746 ; 101.551,-42.813 97.796,-32.694 108.547,-4.687 103.439,3.592 ; 102.01,-34.354 113.248,-6.539 108.286,1.828 ; 106.194,-36.087 117.916,-8.472 113.1,-0.02 ; 110.348,-37.893 122.753,-10.03 117.286,-1.706
Mechanical 7:
  circle w2: c7.299,-237.77 r10